# Altium schematic symbol library MCU_Texas_MSP430.SchLib: 361 symbols (part 1 of 9)
Pins are listed as number, name and electrical type; pins without a type are passive.

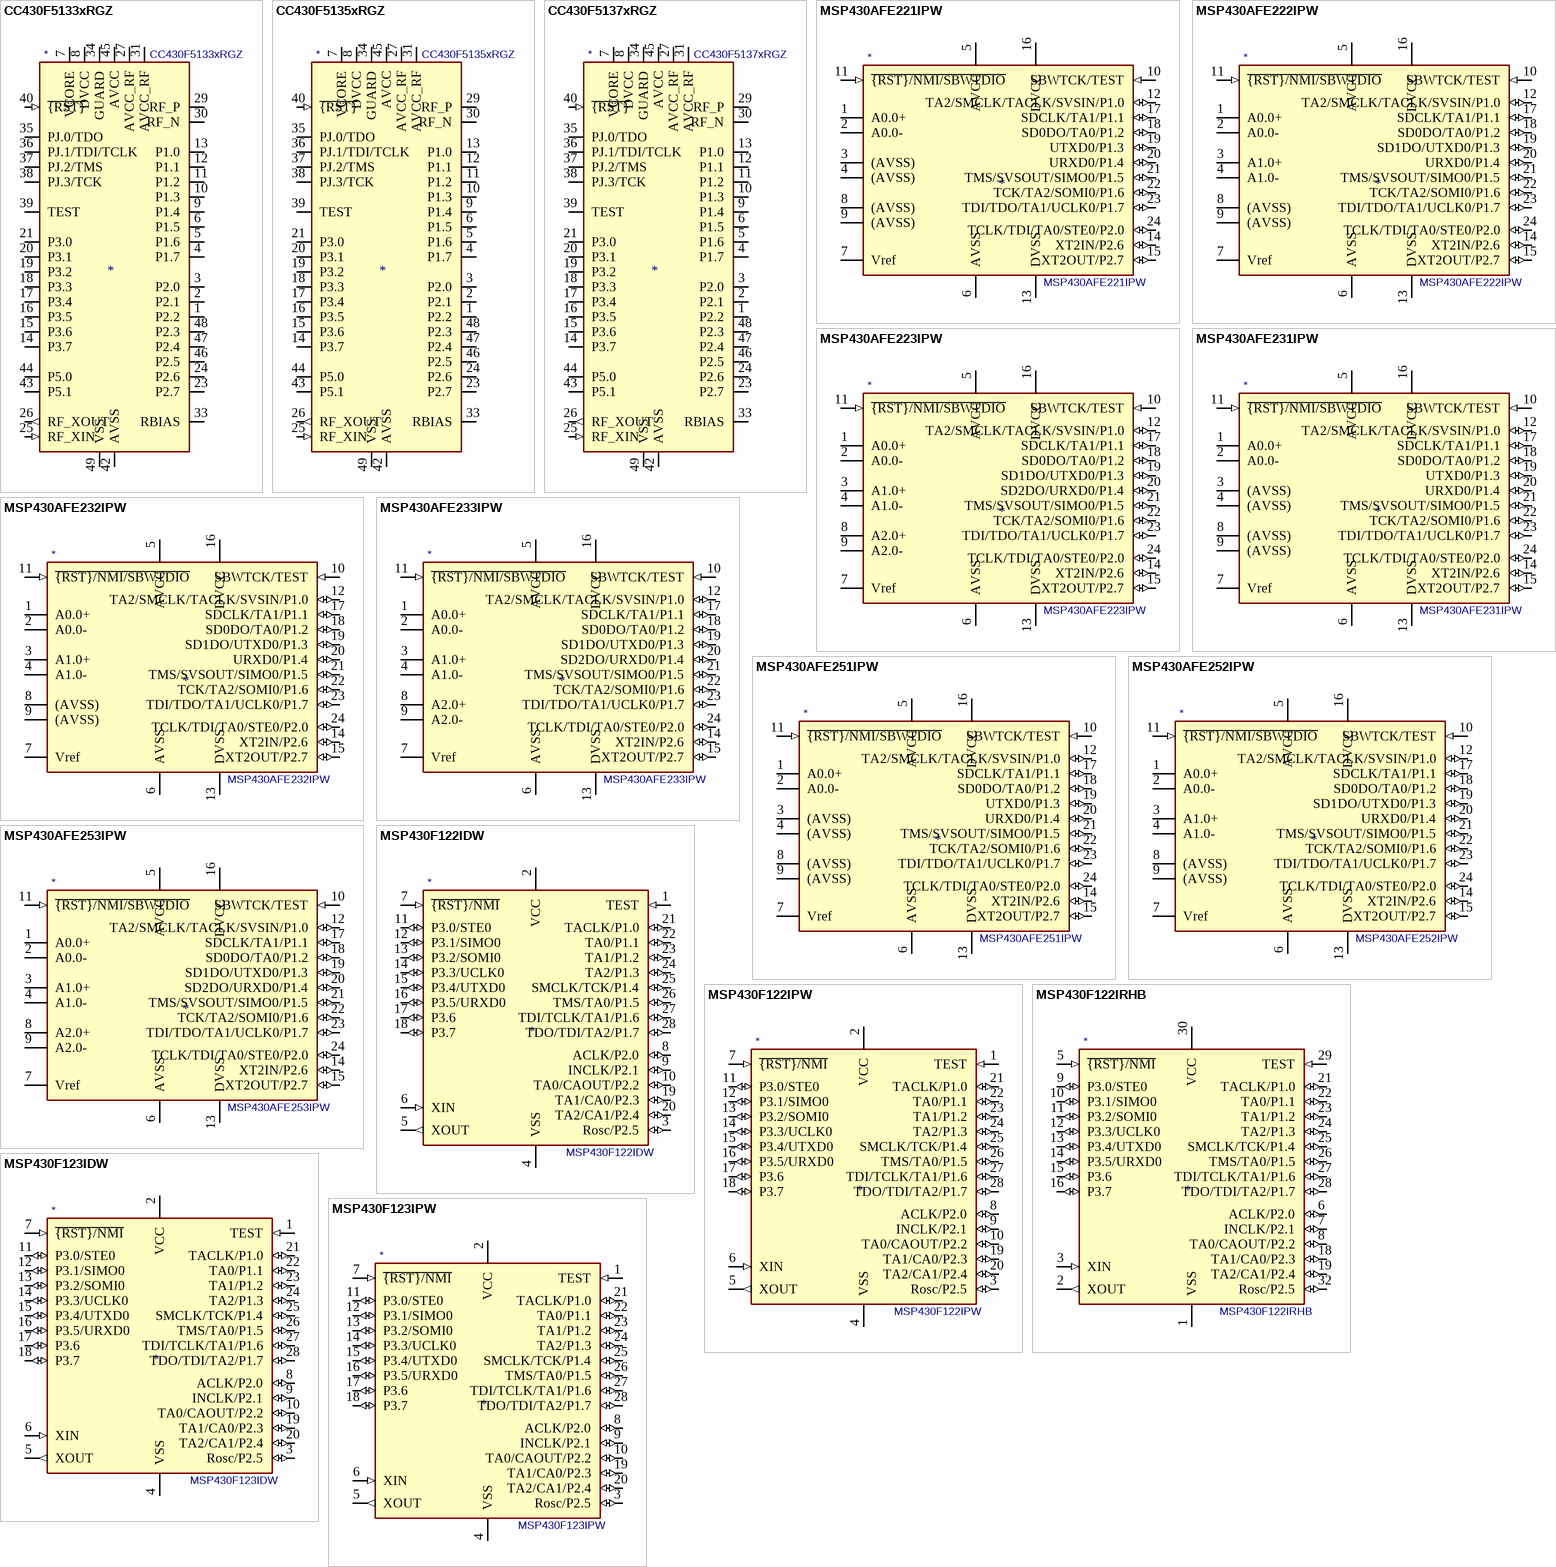
[diagram p0: symbols CC430F5133xRGZ to MSP430F123IPW]

## CC430F5133xRGZ
designator *  value CC430F5133xRGZ
ki_keywords: TI MSP430 CC430 16-bit mixed signal microcontroller CC1101; ki_description: 8KB Flash, 2KB RAM, MSP430 core with integrated CC1101 radio transceiver, VQFN-48; ki_fp_filters: VQFN*1EP*7x7mm*P0.5mm*; Footprint: Package_DFN_QFN:VQFN-48-1EP_7x7mm_P0.5mm_EP4.1x4.1mm_ThermalVias; Supplier: http://www.ti.com/lit/ds/symlink/cc430f5137.pdf
footprint VQFN-48-1EP_7x7mm_P0.5mm_EP4.1x4.1mm_ThermalVias
pins: 1 P2.2 (io), 2 P2.1 (io), 3 P2.0 (io), 4 P1.7 (io), 5 P1.6 (io), 6 P1.5 (io), 7 VCORE (power), 8 DVCC (power), 9 P1.4 (io), 10 P1.3 (io), 11 P1.2 (io), 12 P1.1 (io), 13 P1.0 (io), 14 P3.7 (io), 15 P3.6 (io), 16 P3.5 (io), 17 P3.4 (io), 18 P3.3 (io), 19 P3.2 (io), 20 P3.1 (io), 21 P3.0 (io), 22 DVCC hidden, 23 P2.7 (io), 24 P2.6 (io), 25 RF_XIN (in), 26 RF_XOUT (out), 27 AVCC_RF (power), 28 AVCC_RF hidden, 29 RF_P, 30 RF_N, 31 AVCC_RF (power), 32 AVCC_RF hidden, 33 RBIAS, 34 GUARD (power), 35 PJ.0/TDO (io), 36 PJ.1/TDI/TCLK (io), 37 PJ.2/TMS (io), 38 PJ.3/TCK (io), 39 TEST (io), 40 ~{{RST}} (in), 41 DVCC hidden, 42 AVSS (power), 43 P5.1 (io), 44 P5.0 (io), 45 AVCC (power), 46 P2.5 (io), 47 P2.4 (io), 48 P2.3 (io), 49 VSS (power)

## CC430F5135xRGZ
designator *  value CC430F5135xRGZ
ki_keywords: TI MSP430 CC430 16-bit mixed signal microcontroller CC1101; ki_description: 16KB Flash, 2KB RAM, MSP430 core with integrated CC1101 radio transceiver, VQFN-48; ki_fp_filters: VQFN*1EP*7x7mm*P0.5mm*; Footprint: Package_DFN_QFN:VQFN-48-1EP_7x7mm_P0.5mm_EP4.1x4.1mm_ThermalVias; Supplier: http://www.ti.com/lit/ds/symlink/cc430f5137.pdf
footprint VQFN-48-1EP_7x7mm_P0.5mm_EP4.1x4.1mm_ThermalVias
pins: 1 P2.2 (io), 2 P2.1 (io), 3 P2.0 (io), 4 P1.7 (io), 5 P1.6 (io), 6 P1.5 (io), 7 VCORE (power), 8 DVCC (power), 9 P1.4 (io), 10 P1.3 (io), 11 P1.2 (io), 12 P1.1 (io), 13 P1.0 (io), 14 P3.7 (io), 15 P3.6 (io), 16 P3.5 (io), 17 P3.4 (io), 18 P3.3 (io), 19 P3.2 (io), 20 P3.1 (io), 21 P3.0 (io), 22 DVCC hidden, 23 P2.7 (io), 24 P2.6 (io), 25 RF_XIN (in), 26 RF_XOUT (out), 27 AVCC_RF (power), 28 AVCC_RF hidden, 29 RF_P, 30 RF_N, 31 AVCC_RF (power), 32 AVCC_RF hidden, 33 RBIAS, 34 GUARD (power), 35 PJ.0/TDO (io), 36 PJ.1/TDI/TCLK (io), 37 PJ.2/TMS (io), 38 PJ.3/TCK (io), 39 TEST (io), 40 ~{{RST}} (in), 41 DVCC hidden, 42 AVSS (power), 43 P5.1 (io), 44 P5.0 (io), 45 AVCC (power), 46 P2.5 (io), 47 P2.4 (io), 48 P2.3 (io), 49 VSS (power)

## CC430F5137xRGZ
designator *  value CC430F5137xRGZ
ki_keywords: TI MSP430 CC430 16-bit mixed signal microcontroller CC1101; ki_description: 32KB Flash, 4KB RAM, MSP430 core with integrated CC1101 radio transceiver, VQFN-48; ki_fp_filters: VQFN*1EP*7x7mm*P0.5mm*; Footprint: Package_DFN_QFN:VQFN-48-1EP_7x7mm_P0.5mm_EP4.1x4.1mm_ThermalVias; Supplier: http://www.ti.com/lit/ds/symlink/cc430f5137.pdf
footprint VQFN-48-1EP_7x7mm_P0.5mm_EP4.1x4.1mm_ThermalVias
pins: 1 P2.2 (io), 2 P2.1 (io), 3 P2.0 (io), 4 P1.7 (io), 5 P1.6 (io), 6 P1.5 (io), 7 VCORE (power), 8 DVCC (power), 9 P1.4 (io), 10 P1.3 (io), 11 P1.2 (io), 12 P1.1 (io), 13 P1.0 (io), 14 P3.7 (io), 15 P3.6 (io), 16 P3.5 (io), 17 P3.4 (io), 18 P3.3 (io), 19 P3.2 (io), 20 P3.1 (io), 21 P3.0 (io), 22 DVCC hidden, 23 P2.7 (io), 24 P2.6 (io), 25 RF_XIN (in), 26 RF_XOUT (out), 27 AVCC_RF (power), 28 AVCC_RF hidden, 29 RF_P, 30 RF_N, 31 AVCC_RF (power), 32 AVCC_RF hidden, 33 RBIAS, 34 GUARD (power), 35 PJ.0/TDO (io), 36 PJ.1/TDI/TCLK (io), 37 PJ.2/TMS (io), 38 PJ.3/TCK (io), 39 TEST (io), 40 ~{{RST}} (in), 41 DVCC hidden, 42 AVSS (power), 43 P5.1 (io), 44 P5.0 (io), 45 AVCC (power), 46 P2.5 (io), 47 P2.4 (io), 48 P2.3 (io), 49 VSS (power)

## MSP430AFE221IPW
designator *  value MSP430AFE221IPW
ki_keywords: TI MSP430 16-bit mixed signal microcontroller; ki_description: 4kB Flash, 256B RAM, TSSOP-24; ki_fp_filters: TSSOP*4.4x7.8mm*P0.65mm*; Footprint: Package_SO:TSSOP-24_4.4x7.8mm_P0.65mm; Supplier: http://www.ti.com/lit/ds/symlink/msp430afe221.pdf
footprint TSSOP-24_4.4x7.8mm_P0.65mm
pins: 1 A0.0+, 2 A0.0-, 3 (AVSS), 4 (AVSS), 5 AVCC (power), 6 AVSS (power), 7 Vref, 8 (AVSS), 9 (AVSS), 10 SBWTCK/TEST (in), 11 ~{{RST}/NMI/SBWTDIO} (in), 12 TA2/SMCLK/TACLK/SVSIN/P1.0 (io), 13 DVSS (power), 14 XT2IN/P2.6 (io), 15 XT2OUT/P2.7 (io), 16 DVCC (power), 17 SDCLK/TA1/P1.1 (io), 18 SD0DO/TA0/P1.2 (io), 19 UTXD0/P1.3 (io), 20 URXD0/P1.4 (io), 21 TMS/SVSOUT/SIMO0/P1.5 (io), 22 TCK/TA2/SOMI0/P1.6 (io), 23 TDI/TDO/TA1/UCLK0/P1.7 (io), 24 TCLK/TDI/TA0/STE0/P2.0 (io)

## MSP430AFE222IPW
designator *  value MSP430AFE222IPW
ki_keywords: TI MSP430 16-bit mixed signal microcontroller; ki_description: 4kB Flash, 256B RAM, TSSOP-24; ki_fp_filters: TSSOP*4.4x7.8mm*P0.65mm*; Footprint: Package_SO:TSSOP-24_4.4x7.8mm_P0.65mm; Supplier: http://www.ti.com/lit/ds/symlink/msp430afe222.pdf
footprint TSSOP-24_4.4x7.8mm_P0.65mm
pins: 1 A0.0+, 2 A0.0-, 3 A1.0+, 4 A1.0-, 5 AVCC (power), 6 AVSS (power), 7 Vref, 8 (AVSS), 9 (AVSS), 10 SBWTCK/TEST (in), 11 ~{{RST}/NMI/SBWTDIO} (in), 12 TA2/SMCLK/TACLK/SVSIN/P1.0 (io), 13 DVSS (power), 14 XT2IN/P2.6 (io), 15 XT2OUT/P2.7 (io), 16 DVCC (power), 17 SDCLK/TA1/P1.1 (io), 18 SD0DO/TA0/P1.2 (io), 19 SD1DO/UTXD0/P1.3 (io), 20 URXD0/P1.4 (io), 21 TMS/SVSOUT/SIMO0/P1.5 (io), 22 TCK/TA2/SOMI0/P1.6 (io), 23 TDI/TDO/TA1/UCLK0/P1.7 (io), 24 TCLK/TDI/TA0/STE0/P2.0 (io)

## MSP430AFE223IPW
designator *  value MSP430AFE223IPW
ki_keywords: TI MSP430 16-bit mixed signal microcontroller; ki_description: 4kB Flash, 256B RAM, TSSOP-24; ki_fp_filters: TSSOP*4.4x7.8mm*P0.65mm*; Footprint: Package_SO:TSSOP-24_4.4x7.8mm_P0.65mm; Supplier: http://www.ti.com/lit/ds/symlink/msp430afe223.pdf
footprint TSSOP-24_4.4x7.8mm_P0.65mm
pins: 1 A0.0+, 2 A0.0-, 3 A1.0+, 4 A1.0-, 5 AVCC (power), 6 AVSS (power), 7 Vref, 8 A2.0+, 9 A2.0-, 10 SBWTCK/TEST (in), 11 ~{{RST}/NMI/SBWTDIO} (in), 12 TA2/SMCLK/TACLK/SVSIN/P1.0 (io), 13 DVSS (power), 14 XT2IN/P2.6 (io), 15 XT2OUT/P2.7 (io), 16 DVCC (power), 17 SDCLK/TA1/P1.1 (io), 18 SD0DO/TA0/P1.2 (io), 19 SD1DO/UTXD0/P1.3 (io), 20 SD2DO/URXD0/P1.4 (io), 21 TMS/SVSOUT/SIMO0/P1.5 (io), 22 TCK/TA2/SOMI0/P1.6 (io), 23 TDI/TDO/TA1/UCLK0/P1.7 (io), 24 TCLK/TDI/TA0/STE0/P2.0 (io)

## MSP430AFE231IPW
designator *  value MSP430AFE231IPW
ki_keywords: TI MSP430 16-bit mixed signal microcontroller; ki_description: 8kB Flash, 512B RAM, TSSOP-24; ki_fp_filters: TSSOP*4.4x7.8mm*P0.65mm*; Footprint: Package_SO:TSSOP-24_4.4x7.8mm_P0.65mm; Supplier: http://www.ti.com/lit/ds/symlink/msp430afe231.pdf
footprint TSSOP-24_4.4x7.8mm_P0.65mm
pins: 1 A0.0+, 2 A0.0-, 3 (AVSS), 4 (AVSS), 5 AVCC (power), 6 AVSS (power), 7 Vref, 8 (AVSS), 9 (AVSS), 10 SBWTCK/TEST (in), 11 ~{{RST}/NMI/SBWTDIO} (in), 12 TA2/SMCLK/TACLK/SVSIN/P1.0 (io), 13 DVSS (power), 14 XT2IN/P2.6 (io), 15 XT2OUT/P2.7 (io), 16 DVCC (power), 17 SDCLK/TA1/P1.1 (io), 18 SD0DO/TA0/P1.2 (io), 19 UTXD0/P1.3 (io), 20 URXD0/P1.4 (io), 21 TMS/SVSOUT/SIMO0/P1.5 (io), 22 TCK/TA2/SOMI0/P1.6 (io), 23 TDI/TDO/TA1/UCLK0/P1.7 (io), 24 TCLK/TDI/TA0/STE0/P2.0 (io)

## MSP430AFE232IPW
designator *  value MSP430AFE232IPW
ki_keywords: TI MSP430 16-bit mixed signal microcontroller; ki_description: 8kB Flash, 512B RAM, TSSOP-24; ki_fp_filters: TSSOP*4.4x7.8mm*P0.65mm*; Footprint: Package_SO:TSSOP-24_4.4x7.8mm_P0.65mm; Supplier: http://www.ti.com/lit/ds/symlink/msp430afe232.pdf
footprint TSSOP-24_4.4x7.8mm_P0.65mm
pins: 1 A0.0+, 2 A0.0-, 3 A1.0+, 4 A1.0-, 5 AVCC (power), 6 AVSS (power), 7 Vref, 8 (AVSS), 9 (AVSS), 10 SBWTCK/TEST (in), 11 ~{{RST}/NMI/SBWTDIO} (in), 12 TA2/SMCLK/TACLK/SVSIN/P1.0 (io), 13 DVSS (power), 14 XT2IN/P2.6 (io), 15 XT2OUT/P2.7 (io), 16 DVCC (power), 17 SDCLK/TA1/P1.1 (io), 18 SD0DO/TA0/P1.2 (io), 19 SD1DO/UTXD0/P1.3 (io), 20 URXD0/P1.4 (io), 21 TMS/SVSOUT/SIMO0/P1.5 (io), 22 TCK/TA2/SOMI0/P1.6 (io), 23 TDI/TDO/TA1/UCLK0/P1.7 (io), 24 TCLK/TDI/TA0/STE0/P2.0 (io)

## MSP430AFE233IPW
designator *  value MSP430AFE233IPW
ki_keywords: TI MSP430 16-bit mixed signal microcontroller; ki_description: 8kB Flash, 512B RAM, TSSOP-24; ki_fp_filters: TSSOP*4.4x7.8mm*P0.65mm*; Footprint: Package_SO:TSSOP-24_4.4x7.8mm_P0.65mm; Supplier: http://www.ti.com/lit/ds/symlink/msp430afe233.pdf
footprint TSSOP-24_4.4x7.8mm_P0.65mm
pins: 1 A0.0+, 2 A0.0-, 3 A1.0+, 4 A1.0-, 5 AVCC (power), 6 AVSS (power), 7 Vref, 8 A2.0+, 9 A2.0-, 10 SBWTCK/TEST (in), 11 ~{{RST}/NMI/SBWTDIO} (in), 12 TA2/SMCLK/TACLK/SVSIN/P1.0 (io), 13 DVSS (power), 14 XT2IN/P2.6 (io), 15 XT2OUT/P2.7 (io), 16 DVCC (power), 17 SDCLK/TA1/P1.1 (io), 18 SD0DO/TA0/P1.2 (io), 19 SD1DO/UTXD0/P1.3 (io), 20 SD2DO/URXD0/P1.4 (io), 21 TMS/SVSOUT/SIMO0/P1.5 (io), 22 TCK/TA2/SOMI0/P1.6 (io), 23 TDI/TDO/TA1/UCLK0/P1.7 (io), 24 TCLK/TDI/TA0/STE0/P2.0 (io)

## MSP430AFE251IPW
designator *  value MSP430AFE251IPW
ki_keywords: TI MSP430 16-bit mixed signal microcontroller; ki_description: 16kB Flash, 512B RAM, TSSOP-24; ki_fp_filters: TSSOP*4.4x7.8mm*P0.65mm*; Footprint: Package_SO:TSSOP-24_4.4x7.8mm_P0.65mm; Supplier: http://www.ti.com/lit/ds/symlink/msp430afe251.pdf
footprint TSSOP-24_4.4x7.8mm_P0.65mm
pins: 1 A0.0+, 2 A0.0-, 3 (AVSS), 4 (AVSS), 5 AVCC (power), 6 AVSS (power), 7 Vref, 8 (AVSS), 9 (AVSS), 10 SBWTCK/TEST (in), 11 ~{{RST}/NMI/SBWTDIO} (in), 12 TA2/SMCLK/TACLK/SVSIN/P1.0 (io), 13 DVSS (power), 14 XT2IN/P2.6 (io), 15 XT2OUT/P2.7 (io), 16 DVCC (power), 17 SDCLK/TA1/P1.1 (io), 18 SD0DO/TA0/P1.2 (io), 19 UTXD0/P1.3 (io), 20 URXD0/P1.4 (io), 21 TMS/SVSOUT/SIMO0/P1.5 (io), 22 TCK/TA2/SOMI0/P1.6 (io), 23 TDI/TDO/TA1/UCLK0/P1.7 (io), 24 TCLK/TDI/TA0/STE0/P2.0 (io)

## MSP430AFE252IPW
designator *  value MSP430AFE252IPW
ki_keywords: TI MSP430 16-bit mixed signal microcontroller; ki_description: 16kB Flash, 512B RAM, TSSOP-24; ki_fp_filters: TSSOP*4.4x7.8mm*P0.65mm*; Footprint: Package_SO:TSSOP-24_4.4x7.8mm_P0.65mm; Supplier: http://www.ti.com/lit/ds/symlink/msp430afe252.pdf
footprint TSSOP-24_4.4x7.8mm_P0.65mm
pins: 1 A0.0+, 2 A0.0-, 3 A1.0+, 4 A1.0-, 5 AVCC (power), 6 AVSS (power), 7 Vref, 8 (AVSS), 9 (AVSS), 10 SBWTCK/TEST (in), 11 ~{{RST}/NMI/SBWTDIO} (in), 12 TA2/SMCLK/TACLK/SVSIN/P1.0 (io), 13 DVSS (power), 14 XT2IN/P2.6 (io), 15 XT2OUT/P2.7 (io), 16 DVCC (power), 17 SDCLK/TA1/P1.1 (io), 18 SD0DO/TA0/P1.2 (io), 19 SD1DO/UTXD0/P1.3 (io), 20 URXD0/P1.4 (io), 21 TMS/SVSOUT/SIMO0/P1.5 (io), 22 TCK/TA2/SOMI0/P1.6 (io), 23 TDI/TDO/TA1/UCLK0/P1.7 (io), 24 TCLK/TDI/TA0/STE0/P2.0 (io)

## MSP430AFE253IPW
designator *  value MSP430AFE253IPW
ki_keywords: TI MSP430 16-bit mixed signal microcontroller; ki_description: 16kB Flash, 512B RAM, TSSOP-24; ki_fp_filters: TSSOP*4.4x7.8mm*P0.65mm*; Footprint: Package_SO:TSSOP-24_4.4x7.8mm_P0.65mm; Supplier: http://www.ti.com/lit/ds/symlink/msp430afe253.pdf
footprint TSSOP-24_4.4x7.8mm_P0.65mm
pins: 1 A0.0+, 2 A0.0-, 3 A1.0+, 4 A1.0-, 5 AVCC (power), 6 AVSS (power), 7 Vref, 8 A2.0+, 9 A2.0-, 10 SBWTCK/TEST (in), 11 ~{{RST}/NMI/SBWTDIO} (in), 12 TA2/SMCLK/TACLK/SVSIN/P1.0 (io), 13 DVSS (power), 14 XT2IN/P2.6 (io), 15 XT2OUT/P2.7 (io), 16 DVCC (power), 17 SDCLK/TA1/P1.1 (io), 18 SD0DO/TA0/P1.2 (io), 19 SD1DO/UTXD0/P1.3 (io), 20 SD2DO/URXD0/P1.4 (io), 21 TMS/SVSOUT/SIMO0/P1.5 (io), 22 TCK/TA2/SOMI0/P1.6 (io), 23 TDI/TDO/TA1/UCLK0/P1.7 (io), 24 TCLK/TDI/TA0/STE0/P2.0 (io)

## MSP430F122IDW
designator *  value MSP430F122IDW
ki_keywords: TI MSP430 16-bit mixed signal microcontroller; ki_description: 4kB + 256B Flash, 256B RAM, SOWB-28; ki_fp_filters: SOIC*7.5x17.9mm*P1.27mm*; Footprint: Package_SO:SOIC-28W_7.5x17.9mm_P1.27mm; Supplier: http://www.ti.com/lit/ds/symlink/msp430f122.pdf
footprint SOIC-28W_7.5x17.9mm_P1.27mm
pins: 1 TEST (in), 2 VCC (power), 3 Rosc/P2.5 (io), 4 VSS (power), 5 XOUT (out), 6 XIN (in), 7 ~{{RST}/NMI} (in), 8 ACLK/P2.0 (io), 9 INCLK/P2.1 (io), 10 TA0/CAOUT/P2.2 (io), 11 P3.0/STE0 (io), 12 P3.1/SIMO0 (io), 13 P3.2/SOMI0 (io), 14 P3.3/UCLK0 (io), 15 P3.4/UTXD0 (io), 16 P3.5/URXD0 (io), 17 P3.6 (io), 18 P3.7 (io), 19 TA1/CA0/P2.3 (io), 20 TA2/CA1/P2.4 (io), 21 TACLK/P1.0 (io), 22 TA0/P1.1 (io), 23 TA1/P1.2 (io), 24 TA2/P1.3 (io), 25 SMCLK/TCK/P1.4 (io), 26 TMS/TA0/P1.5 (io), 27 TDI/TCLK/TA1/P1.6 (io), 28 TDO/TDI/TA2/P1.7 (io)

## MSP430F122IPW
designator *  value MSP430F122IPW
ki_keywords: TI MSP430 16-bit mixed signal microcontroller; ki_description: 4kB + 256B Flash, 256B RAM, TSSOP-28; ki_fp_filters: TSSOP*4.4x9.7mm*P0.65mm*; Footprint: Package_SO:TSSOP-28_4.4x9.7mm_P0.65mm; Supplier: http://www.ti.com/lit/ds/symlink/msp430f122.pdf
footprint TSSOP-28_4.4x9.7mm_P0.65mm
pins: 1 TEST (in), 2 VCC (power), 3 Rosc/P2.5 (io), 4 VSS (power), 5 XOUT (out), 6 XIN (in), 7 ~{{RST}/NMI} (in), 8 ACLK/P2.0 (io), 9 INCLK/P2.1 (io), 10 TA0/CAOUT/P2.2 (io), 11 P3.0/STE0 (io), 12 P3.1/SIMO0 (io), 13 P3.2/SOMI0 (io), 14 P3.3/UCLK0 (io), 15 P3.4/UTXD0 (io), 16 P3.5/URXD0 (io), 17 P3.6 (io), 18 P3.7 (io), 19 TA1/CA0/P2.3 (io), 20 TA2/CA1/P2.4 (io), 21 TACLK/P1.0 (io), 22 TA0/P1.1 (io), 23 TA1/P1.2 (io), 24 TA2/P1.3 (io), 25 SMCLK/TCK/P1.4 (io), 26 TMS/TA0/P1.5 (io), 27 TDI/TCLK/TA1/P1.6 (io), 28 TDO/TDI/TA2/P1.7 (io)

## MSP430F122IRHB
designator *  value MSP430F122IRHB
ki_keywords: TI MSP430 16-bit mixed signal microcontroller; ki_description: 4kB + 256B Flash, 256B RAM, QFN-32; ki_fp_filters: Texas*S?PVQFN*; Footprint: Package_DFN_QFN:Texas_S-PVQFN-N32_EP3.45x3.45mm; Supplier: http://www.ti.com/lit/ds/symlink/msp430f122.pdf
footprint Texas_S-PVQFN-N32_EP3.45x3.45mm
pins: 1 VSS (power), 2 XOUT (out), 3 XIN (in), 5 ~{{RST}/NMI} (in), 6 ACLK/P2.0 (io), 7 INCLK/P2.1 (io), 8 TA0/CAOUT/P2.2 (io), 9 P3.0/STE0 (io), 10 P3.1/SIMO0 (io), 11 P3.2/SOMI0 (io), 12 P3.3/UCLK0 (io), 13 P3.4/UTXD0 (io), 14 P3.5/URXD0 (io), 15 P3.6 (io), 16 P3.7 (io), 18 TA1/CA0/P2.3 (io), 19 TA2/CA1/P2.4 (io), 21 TACLK/P1.0 (io), 22 TA0/P1.1 (io), 23 TA1/P1.2 (io), 24 TA2/P1.3 (io), 25 SMCLK/TCK/P1.4 (io), 26 TMS/TA0/P1.5 (io), 27 TDI/TCLK/TA1/P1.6 (io), 28 TDO/TDI/TA2/P1.7 (io), 29 TEST (in), 30 VCC (power), 32 Rosc/P2.5 (io)

## MSP430F123IDW
designator *  value MSP430F123IDW
ki_keywords: TI MSP430 16-bit mixed signal microcontroller; ki_description: 8kB + 256B Flash, 256B RAM, SOWB-28; ki_fp_filters: SOIC*7.5x17.9mm*P1.27mm*; Footprint: Package_SO:SOIC-28W_7.5x17.9mm_P1.27mm; Supplier: http://www.ti.com/lit/ds/symlink/msp430f123.pdf
footprint SOIC-28W_7.5x17.9mm_P1.27mm
pins: 1 TEST (in), 2 VCC (power), 3 Rosc/P2.5 (io), 4 VSS (power), 5 XOUT (out), 6 XIN (in), 7 ~{{RST}/NMI} (in), 8 ACLK/P2.0 (io), 9 INCLK/P2.1 (io), 10 TA0/CAOUT/P2.2 (io), 11 P3.0/STE0 (io), 12 P3.1/SIMO0 (io), 13 P3.2/SOMI0 (io), 14 P3.3/UCLK0 (io), 15 P3.4/UTXD0 (io), 16 P3.5/URXD0 (io), 17 P3.6 (io), 18 P3.7 (io), 19 TA1/CA0/P2.3 (io), 20 TA2/CA1/P2.4 (io), 21 TACLK/P1.0 (io), 22 TA0/P1.1 (io), 23 TA1/P1.2 (io), 24 TA2/P1.3 (io), 25 SMCLK/TCK/P1.4 (io), 26 TMS/TA0/P1.5 (io), 27 TDI/TCLK/TA1/P1.6 (io), 28 TDO/TDI/TA2/P1.7 (io)

## MSP430F123IPW
designator *  value MSP430F123IPW
ki_keywords: TI MSP430 16-bit mixed signal microcontroller; ki_description: 8kB + 256B Flash, 256B RAM, TSSOP-28; ki_fp_filters: TSSOP*4.4x9.7mm*P0.65mm*; Footprint: Package_SO:TSSOP-28_4.4x9.7mm_P0.65mm; Supplier: http://www.ti.com/lit/ds/symlink/msp430f123.pdf
footprint TSSOP-28_4.4x9.7mm_P0.65mm
pins: 1 TEST (in), 2 VCC (power), 3 Rosc/P2.5 (io), 4 VSS (power), 5 XOUT (out), 6 XIN (in), 7 ~{{RST}/NMI} (in), 8 ACLK/P2.0 (io), 9 INCLK/P2.1 (io), 10 TA0/CAOUT/P2.2 (io), 11 P3.0/STE0 (io), 12 P3.1/SIMO0 (io), 13 P3.2/SOMI0 (io), 14 P3.3/UCLK0 (io), 15 P3.4/UTXD0 (io), 16 P3.5/URXD0 (io), 17 P3.6 (io), 18 P3.7 (io), 19 TA1/CA0/P2.3 (io), 20 TA2/CA1/P2.4 (io), 21 TACLK/P1.0 (io), 22 TA0/P1.1 (io), 23 TA1/P1.2 (io), 24 TA2/P1.3 (io), 25 SMCLK/TCK/P1.4 (io), 26 TMS/TA0/P1.5 (io), 27 TDI/TCLK/TA1/P1.6 (io), 28 TDO/TDI/TA2/P1.7 (io)

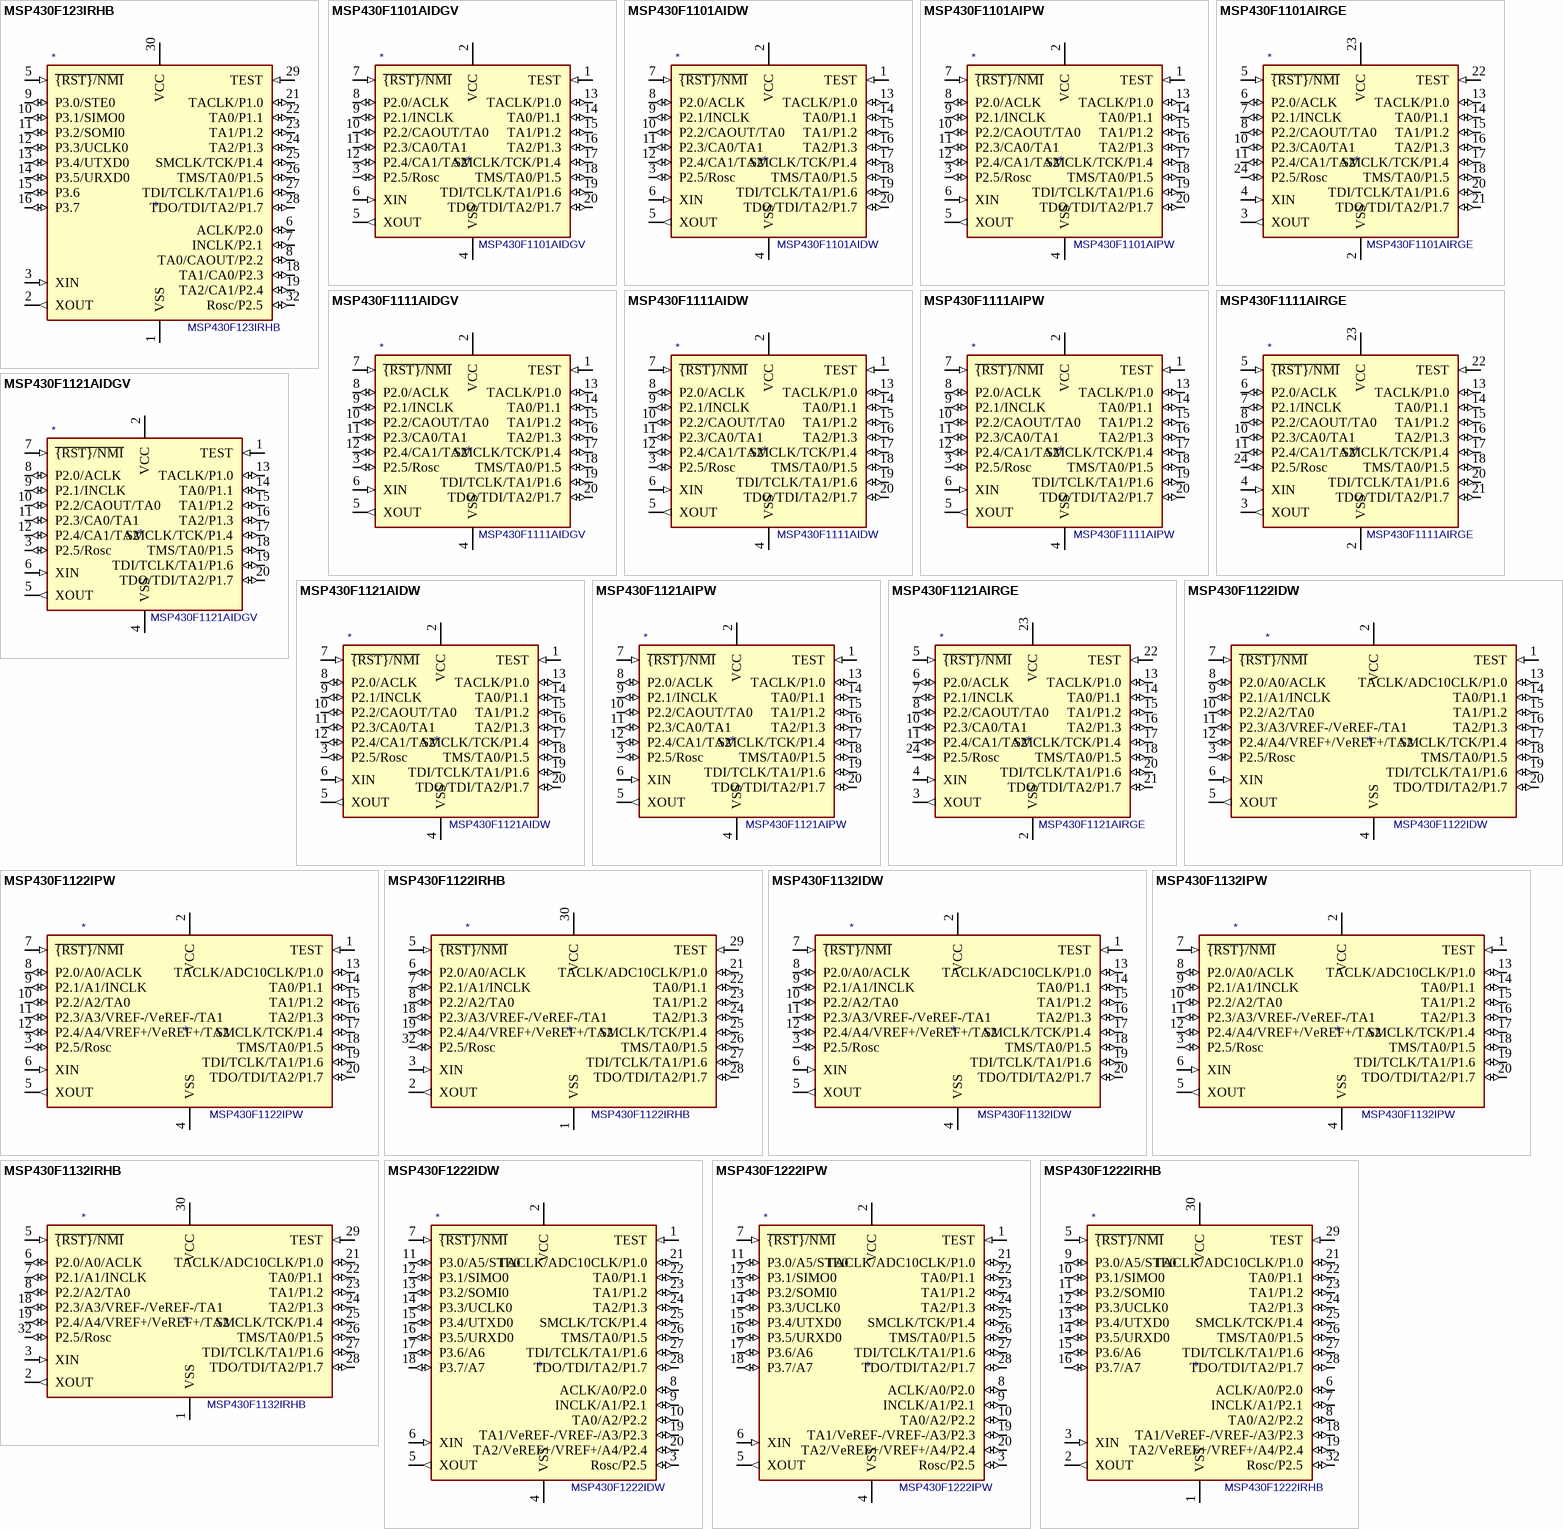
[diagram p1: symbols MSP430F123IRHB to MSP430F1222IRHB]

## MSP430F123IRHB
designator *  value MSP430F123IRHB
ki_keywords: TI MSP430 16-bit mixed signal microcontroller; ki_description: 8kB + 256B Flash, 256B RAM, QFN-32; ki_fp_filters: Texas*S?PVQFN*; Footprint: Package_DFN_QFN:Texas_S-PVQFN-N32_EP3.45x3.45mm; Supplier: http://www.ti.com/lit/ds/symlink/msp430f123.pdf
footprint Texas_S-PVQFN-N32_EP3.45x3.45mm
pins: 1 VSS (power), 2 XOUT (out), 3 XIN (in), 5 ~{{RST}/NMI} (in), 6 ACLK/P2.0 (io), 7 INCLK/P2.1 (io), 8 TA0/CAOUT/P2.2 (io), 9 P3.0/STE0 (io), 10 P3.1/SIMO0 (io), 11 P3.2/SOMI0 (io), 12 P3.3/UCLK0 (io), 13 P3.4/UTXD0 (io), 14 P3.5/URXD0 (io), 15 P3.6 (io), 16 P3.7 (io), 18 TA1/CA0/P2.3 (io), 19 TA2/CA1/P2.4 (io), 21 TACLK/P1.0 (io), 22 TA0/P1.1 (io), 23 TA1/P1.2 (io), 24 TA2/P1.3 (io), 25 SMCLK/TCK/P1.4 (io), 26 TMS/TA0/P1.5 (io), 27 TDI/TCLK/TA1/P1.6 (io), 28 TDO/TDI/TA2/P1.7 (io), 29 TEST (in), 30 VCC (power), 32 Rosc/P2.5 (io)

## MSP430F1101AIDGV
designator *  value MSP430F1101AIDGV
ki_keywords: TI MSP430 16-bit mixed signal microcontroller; ki_description: 1kB + 128B Flash, 128B RAM, TVSOP-20; ki_fp_filters: TSSOP*4.4x6.5mm*P0.65mm*; Footprint: Package_SO:TSSOP-20_4.4x6.5mm_P0.65mm; Supplier: http://www.ti.com/lit/ds/symlink/msp430f1101a.pdf
footprint TSSOP-20_4.4x6.5mm_P0.65mm
pins: 1 TEST (in), 2 VCC (power), 3 P2.5/Rosc (io), 4 VSS (power), 5 XOUT (out), 6 XIN (in), 7 ~{{RST}/NMI} (in), 8 P2.0/ACLK (io), 9 P2.1/INCLK (io), 10 P2.2/CAOUT/TA0 (io), 11 P2.3/CA0/TA1 (io), 12 P2.4/CA1/TA2 (io), 13 TACLK/P1.0 (io), 14 TA0/P1.1 (io), 15 TA1/P1.2 (io), 16 TA2/P1.3 (io), 17 SMCLK/TCK/P1.4 (io), 18 TMS/TA0/P1.5 (io), 19 TDI/TCLK/TA1/P1.6 (io), 20 TDO/TDI/TA2/P1.7 (io)

## MSP430F1101AIDW
designator *  value MSP430F1101AIDW
ki_keywords: TI MSP430 16-bit mixed signal microcontroller; ki_description: 1kB + 128B Flash, 128B RAM, SOWB-20; ki_fp_filters: SOIC*7.5x12.8mm*P1.27mm*; Footprint: Package_SO:SOIC-20W_7.5x12.8mm_P1.27mm; Supplier: http://www.ti.com/lit/ds/symlink/msp430f1101a.pdf
footprint SOIC-20W_7.5x12.8mm_P1.27mm
pins: 1 TEST (in), 2 VCC (power), 3 P2.5/Rosc (io), 4 VSS (power), 5 XOUT (out), 6 XIN (in), 7 ~{{RST}/NMI} (in), 8 P2.0/ACLK (io), 9 P2.1/INCLK (io), 10 P2.2/CAOUT/TA0 (io), 11 P2.3/CA0/TA1 (io), 12 P2.4/CA1/TA2 (io), 13 TACLK/P1.0 (io), 14 TA0/P1.1 (io), 15 TA1/P1.2 (io), 16 TA2/P1.3 (io), 17 SMCLK/TCK/P1.4 (io), 18 TMS/TA0/P1.5 (io), 19 TDI/TCLK/TA1/P1.6 (io), 20 TDO/TDI/TA2/P1.7 (io)

## MSP430F1101AIPW
designator *  value MSP430F1101AIPW
ki_keywords: TI MSP430 16-bit mixed signal microcontroller; ki_description: 1kB + 128B Flash, 128B RAM, TSSOP-20; ki_fp_filters: TSSOP*4.4x6.5mm*P0.65mm*; Footprint: Package_SO:TSSOP-20_4.4x6.5mm_P0.65mm; Supplier: http://www.ti.com/lit/ds/symlink/msp430f1101a.pdf
footprint TSSOP-20_4.4x6.5mm_P0.65mm
pins: 1 TEST (in), 2 VCC (power), 3 P2.5/Rosc (io), 4 VSS (power), 5 XOUT (out), 6 XIN (in), 7 ~{{RST}/NMI} (in), 8 P2.0/ACLK (io), 9 P2.1/INCLK (io), 10 P2.2/CAOUT/TA0 (io), 11 P2.3/CA0/TA1 (io), 12 P2.4/CA1/TA2 (io), 13 TACLK/P1.0 (io), 14 TA0/P1.1 (io), 15 TA1/P1.2 (io), 16 TA2/P1.3 (io), 17 SMCLK/TCK/P1.4 (io), 18 TMS/TA0/P1.5 (io), 19 TDI/TCLK/TA1/P1.6 (io), 20 TDO/TDI/TA2/P1.7 (io)

## MSP430F1101AIRGE
designator *  value MSP430F1101AIRGE
ki_keywords: TI MSP430 16-bit mixed signal microcontroller; ki_description: 1kB + 128B Flash, 128B RAM, QFN-24; ki_fp_filters: VQFN*1EP*4x4mm*P0.5mm*; Footprint: Package_DFN_QFN:VQFN-24-1EP_4x4mm_P0.5mm_EP2.45x2.45mm; Supplier: http://www.ti.com/lit/ds/symlink/msp430f1101a.pdf
footprint VQFN-24-1EP_4x4mm_P0.5mm_EP2.45x2.45mm
pins: 2 VSS (power), 3 XOUT (out), 4 XIN (in), 5 ~{{RST}/NMI} (in), 6 P2.0/ACLK (io), 7 P2.1/INCLK (io), 8 P2.2/CAOUT/TA0 (io), 10 P2.3/CA0/TA1 (io), 11 P2.4/CA1/TA2 (io), 13 TACLK/P1.0 (io), 14 TA0/P1.1 (io), 15 TA1/P1.2 (io), 16 TA2/P1.3 (io), 17 SMCLK/TCK/P1.4 (io), 18 TMS/TA0/P1.5 (io), 20 TDI/TCLK/TA1/P1.6 (io), 21 TDO/TDI/TA2/P1.7 (io), 22 TEST (in), 23 VCC (power), 24 P2.5/Rosc (io)

## MSP430F1111AIDGV
designator *  value MSP430F1111AIDGV
ki_keywords: TI MSP430 16-bit mixed signal microcontroller; ki_description: 2kB + 256B Flash, 128B RAM, TVSOP-20; ki_fp_filters: TSSOP*4.4x6.5mm*P0.65mm*; Footprint: Package_SO:TSSOP-20_4.4x6.5mm_P0.65mm; Supplier: http://www.ti.com/lit/ds/symlink/msp430f1111a.pdf
footprint TSSOP-20_4.4x6.5mm_P0.65mm
pins: 1 TEST (in), 2 VCC (power), 3 P2.5/Rosc (io), 4 VSS (power), 5 XOUT (out), 6 XIN (in), 7 ~{{RST}/NMI} (in), 8 P2.0/ACLK (io), 9 P2.1/INCLK (io), 10 P2.2/CAOUT/TA0 (io), 11 P2.3/CA0/TA1 (io), 12 P2.4/CA1/TA2 (io), 13 TACLK/P1.0 (io), 14 TA0/P1.1 (io), 15 TA1/P1.2 (io), 16 TA2/P1.3 (io), 17 SMCLK/TCK/P1.4 (io), 18 TMS/TA0/P1.5 (io), 19 TDI/TCLK/TA1/P1.6 (io), 20 TDO/TDI/TA2/P1.7 (io)

## MSP430F1111AIDW
designator *  value MSP430F1111AIDW
ki_keywords: TI MSP430 16-bit mixed signal microcontroller; ki_description: 2kB + 256B Flash, 128B RAM, SOWB-20; ki_fp_filters: SOIC*7.5x12.8mm*P1.27mm*; Footprint: Package_SO:SOIC-20W_7.5x12.8mm_P1.27mm; Supplier: http://www.ti.com/lit/ds/symlink/msp430f1111a.pdf
footprint SOIC-20W_7.5x12.8mm_P1.27mm
pins: 1 TEST (in), 2 VCC (power), 3 P2.5/Rosc (io), 4 VSS (power), 5 XOUT (out), 6 XIN (in), 7 ~{{RST}/NMI} (in), 8 P2.0/ACLK (io), 9 P2.1/INCLK (io), 10 P2.2/CAOUT/TA0 (io), 11 P2.3/CA0/TA1 (io), 12 P2.4/CA1/TA2 (io), 13 TACLK/P1.0 (io), 14 TA0/P1.1 (io), 15 TA1/P1.2 (io), 16 TA2/P1.3 (io), 17 SMCLK/TCK/P1.4 (io), 18 TMS/TA0/P1.5 (io), 19 TDI/TCLK/TA1/P1.6 (io), 20 TDO/TDI/TA2/P1.7 (io)

## MSP430F1111AIPW
designator *  value MSP430F1111AIPW
ki_keywords: TI MSP430 16-bit mixed signal microcontroller; ki_description: 2kB + 256B Flash, 128B RAM, TSSOP-20; ki_fp_filters: TSSOP*4.4x6.5mm*P0.65mm*; Footprint: Package_SO:TSSOP-20_4.4x6.5mm_P0.65mm; Supplier: http://www.ti.com/lit/ds/symlink/msp430f1111a.pdf
footprint TSSOP-20_4.4x6.5mm_P0.65mm
pins: 1 TEST (in), 2 VCC (power), 3 P2.5/Rosc (io), 4 VSS (power), 5 XOUT (out), 6 XIN (in), 7 ~{{RST}/NMI} (in), 8 P2.0/ACLK (io), 9 P2.1/INCLK (io), 10 P2.2/CAOUT/TA0 (io), 11 P2.3/CA0/TA1 (io), 12 P2.4/CA1/TA2 (io), 13 TACLK/P1.0 (io), 14 TA0/P1.1 (io), 15 TA1/P1.2 (io), 16 TA2/P1.3 (io), 17 SMCLK/TCK/P1.4 (io), 18 TMS/TA0/P1.5 (io), 19 TDI/TCLK/TA1/P1.6 (io), 20 TDO/TDI/TA2/P1.7 (io)

## MSP430F1111AIRGE
designator *  value MSP430F1111AIRGE
ki_keywords: TI MSP430 16-bit mixed signal microcontroller; ki_description: 2kB + 256B Flash, 128B RAM, QFN-24; ki_fp_filters: VQFN*1EP*4x4mm*P0.5mm*; Footprint: Package_DFN_QFN:VQFN-24-1EP_4x4mm_P0.5mm_EP2.45x2.45mm; Supplier: http://www.ti.com/lit/ds/symlink/msp430f1111a.pdf
footprint VQFN-24-1EP_4x4mm_P0.5mm_EP2.45x2.45mm
pins: 2 VSS (power), 3 XOUT (out), 4 XIN (in), 5 ~{{RST}/NMI} (in), 6 P2.0/ACLK (io), 7 P2.1/INCLK (io), 8 P2.2/CAOUT/TA0 (io), 10 P2.3/CA0/TA1 (io), 11 P2.4/CA1/TA2 (io), 13 TACLK/P1.0 (io), 14 TA0/P1.1 (io), 15 TA1/P1.2 (io), 16 TA2/P1.3 (io), 17 SMCLK/TCK/P1.4 (io), 18 TMS/TA0/P1.5 (io), 20 TDI/TCLK/TA1/P1.6 (io), 21 TDO/TDI/TA2/P1.7 (io), 22 TEST (in), 23 VCC (power), 24 P2.5/Rosc (io)

## MSP430F1121AIDGV
designator *  value MSP430F1121AIDGV
ki_keywords: TI MSP430 16-bit mixed signal microcontroller; ki_description: 4kB + 256B Flash, 256B RAM, TVSOP-20; ki_fp_filters: TSSOP*4.4x6.5mm*P0.65mm*; Footprint: Package_SO:TSSOP-20_4.4x6.5mm_P0.65mm; Supplier: http://www.ti.com/lit/ds/symlink/msp430f1121a.pdf
footprint TSSOP-20_4.4x6.5mm_P0.65mm
pins: 1 TEST (in), 2 VCC (power), 3 P2.5/Rosc (io), 4 VSS (power), 5 XOUT (out), 6 XIN (in), 7 ~{{RST}/NMI} (in), 8 P2.0/ACLK (io), 9 P2.1/INCLK (io), 10 P2.2/CAOUT/TA0 (io), 11 P2.3/CA0/TA1 (io), 12 P2.4/CA1/TA2 (io), 13 TACLK/P1.0 (io), 14 TA0/P1.1 (io), 15 TA1/P1.2 (io), 16 TA2/P1.3 (io), 17 SMCLK/TCK/P1.4 (io), 18 TMS/TA0/P1.5 (io), 19 TDI/TCLK/TA1/P1.6 (io), 20 TDO/TDI/TA2/P1.7 (io)

## MSP430F1121AIDW
designator *  value MSP430F1121AIDW
ki_keywords: TI MSP430 16-bit mixed signal microcontroller; ki_description: 4kB + 256B Flash, 256B RAM, SOWB-20; ki_fp_filters: SOIC*7.5x12.8mm*P1.27mm*; Footprint: Package_SO:SOIC-20W_7.5x12.8mm_P1.27mm; Supplier: http://www.ti.com/lit/ds/symlink/msp430f1121a.pdf
footprint SOIC-20W_7.5x12.8mm_P1.27mm
pins: 1 TEST (in), 2 VCC (power), 3 P2.5/Rosc (io), 4 VSS (power), 5 XOUT (out), 6 XIN (in), 7 ~{{RST}/NMI} (in), 8 P2.0/ACLK (io), 9 P2.1/INCLK (io), 10 P2.2/CAOUT/TA0 (io), 11 P2.3/CA0/TA1 (io), 12 P2.4/CA1/TA2 (io), 13 TACLK/P1.0 (io), 14 TA0/P1.1 (io), 15 TA1/P1.2 (io), 16 TA2/P1.3 (io), 17 SMCLK/TCK/P1.4 (io), 18 TMS/TA0/P1.5 (io), 19 TDI/TCLK/TA1/P1.6 (io), 20 TDO/TDI/TA2/P1.7 (io)

## MSP430F1121AIPW
designator *  value MSP430F1121AIPW
ki_keywords: TI MSP430 16-bit mixed signal microcontroller; ki_description: 4kB + 256B Flash, 256B RAM, TSSOP-20; ki_fp_filters: TSSOP*4.4x6.5mm*P0.65mm*; Footprint: Package_SO:TSSOP-20_4.4x6.5mm_P0.65mm; Supplier: http://www.ti.com/lit/ds/symlink/msp430f1121a.pdf
footprint TSSOP-20_4.4x6.5mm_P0.65mm
pins: 1 TEST (in), 2 VCC (power), 3 P2.5/Rosc (io), 4 VSS (power), 5 XOUT (out), 6 XIN (in), 7 ~{{RST}/NMI} (in), 8 P2.0/ACLK (io), 9 P2.1/INCLK (io), 10 P2.2/CAOUT/TA0 (io), 11 P2.3/CA0/TA1 (io), 12 P2.4/CA1/TA2 (io), 13 TACLK/P1.0 (io), 14 TA0/P1.1 (io), 15 TA1/P1.2 (io), 16 TA2/P1.3 (io), 17 SMCLK/TCK/P1.4 (io), 18 TMS/TA0/P1.5 (io), 19 TDI/TCLK/TA1/P1.6 (io), 20 TDO/TDI/TA2/P1.7 (io)

## MSP430F1121AIRGE
designator *  value MSP430F1121AIRGE
ki_keywords: TI MSP430 16-bit mixed signal microcontroller; ki_description: 4kB + 256B Flash, 256B RAM, QFN-24; ki_fp_filters: VQFN*1EP*4x4mm*P0.5mm*; Footprint: Package_DFN_QFN:VQFN-24-1EP_4x4mm_P0.5mm_EP2.45x2.45mm; Supplier: http://www.ti.com/lit/ds/symlink/msp430f1121a.pdf
footprint VQFN-24-1EP_4x4mm_P0.5mm_EP2.45x2.45mm
pins: 2 VSS (power), 3 XOUT (out), 4 XIN (in), 5 ~{{RST}/NMI} (in), 6 P2.0/ACLK (io), 7 P2.1/INCLK (io), 8 P2.2/CAOUT/TA0 (io), 10 P2.3/CA0/TA1 (io), 11 P2.4/CA1/TA2 (io), 13 TACLK/P1.0 (io), 14 TA0/P1.1 (io), 15 TA1/P1.2 (io), 16 TA2/P1.3 (io), 17 SMCLK/TCK/P1.4 (io), 18 TMS/TA0/P1.5 (io), 20 TDI/TCLK/TA1/P1.6 (io), 21 TDO/TDI/TA2/P1.7 (io), 22 TEST (in), 23 VCC (power), 24 P2.5/Rosc (io)

## MSP430F1122IDW
designator *  value MSP430F1122IDW
ki_keywords: TI MSP430 16-bit mixed signal microcontroller; ki_description: 4kB + 256B Flash, 256B RAM, SOWB-20; ki_fp_filters: SOIC*7.5x17.9mm*P1.27mm*; Footprint: Package_SO:SOIC-28W_7.5x17.9mm_P1.27mm; Supplier: http://www.ti.com/lit/ds/symlink/msp430f1122.pdf
footprint SOIC-28W_7.5x17.9mm_P1.27mm
pins: 1 TEST (in), 2 VCC (power), 3 P2.5/Rosc (io), 4 VSS (power), 5 XOUT (out), 6 XIN (in), 7 ~{{RST}/NMI} (in), 8 P2.0/A0/ACLK (io), 9 P2.1/A1/INCLK (io), 10 P2.2/A2/TA0 (io), 11 P2.3/A3/VREF-/VeREF-/TA1 (io), 12 P2.4/A4/VREF+/VeREF+/TA2 (io), 13 TACLK/ADC10CLK/P1.0 (io), 14 TA0/P1.1 (io), 15 TA1/P1.2 (io), 16 TA2/P1.3 (io), 17 SMCLK/TCK/P1.4 (io), 18 TMS/TA0/P1.5 (io), 19 TDI/TCLK/TA1/P1.6 (io), 20 TDO/TDI/TA2/P1.7 (io)

## MSP430F1122IPW
designator *  value MSP430F1122IPW
ki_keywords: TI MSP430 16-bit mixed signal microcontroller; ki_description: 4kB + 256B Flash, 256B RAM, TSSOP-20; ki_fp_filters: TSSOP*4.4x9.7mm*P0.65mm*; Footprint: Package_SO:TSSOP-28_4.4x9.7mm_P0.65mm; Supplier: http://www.ti.com/lit/ds/symlink/msp430f1122.pdf
footprint TSSOP-28_4.4x9.7mm_P0.65mm
pins: 1 TEST (in), 2 VCC (power), 3 P2.5/Rosc (io), 4 VSS (power), 5 XOUT (out), 6 XIN (in), 7 ~{{RST}/NMI} (in), 8 P2.0/A0/ACLK (io), 9 P2.1/A1/INCLK (io), 10 P2.2/A2/TA0 (io), 11 P2.3/A3/VREF-/VeREF-/TA1 (io), 12 P2.4/A4/VREF+/VeREF+/TA2 (io), 13 TACLK/ADC10CLK/P1.0 (io), 14 TA0/P1.1 (io), 15 TA1/P1.2 (io), 16 TA2/P1.3 (io), 17 SMCLK/TCK/P1.4 (io), 18 TMS/TA0/P1.5 (io), 19 TDI/TCLK/TA1/P1.6 (io), 20 TDO/TDI/TA2/P1.7 (io)

## MSP430F1122IRHB
designator *  value MSP430F1122IRHB
ki_keywords: TI MSP430 16-bit mixed signal microcontroller; ki_description: 4kB + 256B Flash, 256B RAM, QFN-32; ki_fp_filters: Texas*S?PVQFN*; Footprint: Package_DFN_QFN:Texas_S-PVQFN-N32_EP3.45x3.45mm; Supplier: http://www.ti.com/lit/ds/symlink/msp430f1122.pdf
footprint Texas_S-PVQFN-N32_EP3.45x3.45mm
pins: 1 VSS (power), 2 XOUT (out), 3 XIN (in), 5 ~{{RST}/NMI} (in), 6 P2.0/A0/ACLK (io), 7 P2.1/A1/INCLK (io), 8 P2.2/A2/TA0 (io), 18 P2.3/A3/VREF-/VeREF-/TA1 (io), 19 P2.4/A4/VREF+/VeREF+/TA2 (io), 21 TACLK/ADC10CLK/P1.0 (io), 22 TA0/P1.1 (io), 23 TA1/P1.2 (io), 24 TA2/P1.3 (io), 25 SMCLK/TCK/P1.4 (io), 26 TMS/TA0/P1.5 (io), 27 TDI/TCLK/TA1/P1.6 (io), 28 TDO/TDI/TA2/P1.7 (io), 29 TEST (in), 30 VCC (power), 32 P2.5/Rosc (io)

## MSP430F1132IDW
designator *  value MSP430F1132IDW
ki_keywords: TI MSP430 16-bit mixed signal microcontroller; ki_description: 8kB + 256B Flash, 256B RAM, SOWB-20; ki_fp_filters: SOIC*7.5x17.9mm*P1.27mm*; Footprint: Package_SO:SOIC-28W_7.5x17.9mm_P1.27mm; Supplier: http://www.ti.com/lit/ds/symlink/msp430f1132.pdf
footprint SOIC-28W_7.5x17.9mm_P1.27mm
pins: 1 TEST (in), 2 VCC (power), 3 P2.5/Rosc (io), 4 VSS (power), 5 XOUT (out), 6 XIN (in), 7 ~{{RST}/NMI} (in), 8 P2.0/A0/ACLK (io), 9 P2.1/A1/INCLK (io), 10 P2.2/A2/TA0 (io), 11 P2.3/A3/VREF-/VeREF-/TA1 (io), 12 P2.4/A4/VREF+/VeREF+/TA2 (io), 13 TACLK/ADC10CLK/P1.0 (io), 14 TA0/P1.1 (io), 15 TA1/P1.2 (io), 16 TA2/P1.3 (io), 17 SMCLK/TCK/P1.4 (io), 18 TMS/TA0/P1.5 (io), 19 TDI/TCLK/TA1/P1.6 (io), 20 TDO/TDI/TA2/P1.7 (io)

## MSP430F1132IPW
designator *  value MSP430F1132IPW
ki_keywords: TI MSP430 16-bit mixed signal microcontroller; ki_description: 8kB + 256B Flash, 256B RAM, TSSOP-20; ki_fp_filters: TSSOP*4.4x9.7mm*P0.65mm*; Footprint: Package_SO:TSSOP-28_4.4x9.7mm_P0.65mm; Supplier: http://www.ti.com/lit/ds/symlink/msp430f1132.pdf
footprint TSSOP-28_4.4x9.7mm_P0.65mm
pins: 1 TEST (in), 2 VCC (power), 3 P2.5/Rosc (io), 4 VSS (power), 5 XOUT (out), 6 XIN (in), 7 ~{{RST}/NMI} (in), 8 P2.0/A0/ACLK (io), 9 P2.1/A1/INCLK (io), 10 P2.2/A2/TA0 (io), 11 P2.3/A3/VREF-/VeREF-/TA1 (io), 12 P2.4/A4/VREF+/VeREF+/TA2 (io), 13 TACLK/ADC10CLK/P1.0 (io), 14 TA0/P1.1 (io), 15 TA1/P1.2 (io), 16 TA2/P1.3 (io), 17 SMCLK/TCK/P1.4 (io), 18 TMS/TA0/P1.5 (io), 19 TDI/TCLK/TA1/P1.6 (io), 20 TDO/TDI/TA2/P1.7 (io)

## MSP430F1132IRHB
designator *  value MSP430F1132IRHB
ki_keywords: TI MSP430 16-bit mixed signal microcontroller; ki_description: 8kB + 256B Flash, 256B RAM, QFN-32; ki_fp_filters: Texas*S?PVQFN*; Footprint: Package_DFN_QFN:Texas_S-PVQFN-N32_EP3.45x3.45mm; Supplier: http://www.ti.com/lit/ds/symlink/msp430f1132.pdf
footprint Texas_S-PVQFN-N32_EP3.45x3.45mm
pins: 1 VSS (power), 2 XOUT (out), 3 XIN (in), 5 ~{{RST}/NMI} (in), 6 P2.0/A0/ACLK (io), 7 P2.1/A1/INCLK (io), 8 P2.2/A2/TA0 (io), 18 P2.3/A3/VREF-/VeREF-/TA1 (io), 19 P2.4/A4/VREF+/VeREF+/TA2 (io), 21 TACLK/ADC10CLK/P1.0 (io), 22 TA0/P1.1 (io), 23 TA1/P1.2 (io), 24 TA2/P1.3 (io), 25 SMCLK/TCK/P1.4 (io), 26 TMS/TA0/P1.5 (io), 27 TDI/TCLK/TA1/P1.6 (io), 28 TDO/TDI/TA2/P1.7 (io), 29 TEST (in), 30 VCC (power), 32 P2.5/Rosc (io)

## MSP430F1222IDW
designator *  value MSP430F1222IDW
ki_keywords: TI MSP430 16-bit mixed signal microcontroller; ki_description: 4kB + 256B Flash, 256B RAM, SOWB-28; ki_fp_filters: SOIC*7.5x17.9mm*P1.27mm*; Footprint: Package_SO:SOIC-28W_7.5x17.9mm_P1.27mm; Supplier: http://www.ti.com/lit/ds/symlink/msp430f1222.pdf
footprint SOIC-28W_7.5x17.9mm_P1.27mm
pins: 1 TEST (in), 2 VCC (power), 3 Rosc/P2.5 (io), 4 VSS (power), 5 XOUT (out), 6 XIN (in), 7 ~{{RST}/NMI} (in), 8 ACLK/A0/P2.0 (io), 9 INCLK/A1/P2.1 (io), 10 TA0/A2/P2.2 (io), 11 P3.0/A5/STE0 (io), 12 P3.1/SIMO0 (io), 13 P3.2/SOMI0 (io), 14 P3.3/UCLK0 (io), 15 P3.4/UTXD0 (io), 16 P3.5/URXD0 (io), 17 P3.6/A6 (io), 18 P3.7/A7 (io), 19 TA1/VeREF-/VREF-/A3/P2.3 (io), 20 TA2/VeREF+/VREF+/A4/P2.4 (io), 21 TACLK/ADC10CLK/P1.0 (io), 22 TA0/P1.1 (io), 23 TA1/P1.2 (io), 24 TA2/P1.3 (io), 25 SMCLK/TCK/P1.4 (io), 26 TMS/TA0/P1.5 (io), 27 TDI/TCLK/TA1/P1.6 (io), 28 TDO/TDI/TA2/P1.7 (io)

## MSP430F1222IPW
designator *  value MSP430F1222IPW
ki_keywords: TI MSP430 16-bit mixed signal microcontroller; ki_description: 4kB + 256B Flash, 256B RAM, TSSOP-28; ki_fp_filters: TSSOP*4.4x9.7mm*P0.65mm*; Footprint: Package_SO:TSSOP-28_4.4x9.7mm_P0.65mm; Supplier: http://www.ti.com/lit/ds/symlink/msp430f1222.pdf
footprint TSSOP-28_4.4x9.7mm_P0.65mm
pins: 1 TEST (in), 2 VCC (power), 3 Rosc/P2.5 (io), 4 VSS (power), 5 XOUT (out), 6 XIN (in), 7 ~{{RST}/NMI} (in), 8 ACLK/A0/P2.0 (io), 9 INCLK/A1/P2.1 (io), 10 TA0/A2/P2.2 (io), 11 P3.0/A5/STE0 (io), 12 P3.1/SIMO0 (io), 13 P3.2/SOMI0 (io), 14 P3.3/UCLK0 (io), 15 P3.4/UTXD0 (io), 16 P3.5/URXD0 (io), 17 P3.6/A6 (io), 18 P3.7/A7 (io), 19 TA1/VeREF-/VREF-/A3/P2.3 (io), 20 TA2/VeREF+/VREF+/A4/P2.4 (io), 21 TACLK/ADC10CLK/P1.0 (io), 22 TA0/P1.1 (io), 23 TA1/P1.2 (io), 24 TA2/P1.3 (io), 25 SMCLK/TCK/P1.4 (io), 26 TMS/TA0/P1.5 (io), 27 TDI/TCLK/TA1/P1.6 (io), 28 TDO/TDI/TA2/P1.7 (io)

## MSP430F1222IRHB
designator *  value MSP430F1222IRHB
ki_keywords: TI MSP430 16-bit mixed signal microcontroller; ki_description: 4kB + 256B Flash, 256B RAM, QFN-32; ki_fp_filters: Texas*S?PVQFN*; Footprint: Package_DFN_QFN:Texas_S-PVQFN-N32_EP3.45x3.45mm; Supplier: http://www.ti.com/lit/ds/symlink/msp430f1222.pdf
footprint Texas_S-PVQFN-N32_EP3.45x3.45mm
pins: 1 VSS (power), 2 XOUT (out), 3 XIN (in), 5 ~{{RST}/NMI} (in), 6 ACLK/A0/P2.0 (io), 7 INCLK/A1/P2.1 (io), 8 TA0/A2/P2.2 (io), 9 P3.0/A5/STE0 (io), 10 P3.1/SIMO0 (io), 11 P3.2/SOMI0 (io), 12 P3.3/UCLK0 (io), 13 P3.4/UTXD0 (io), 14 P3.5/URXD0 (io), 15 P3.6/A6 (io), 16 P3.7/A7 (io), 18 TA1/VeREF-/VREF-/A3/P2.3 (io), 19 TA2/VeREF+/VREF+/A4/P2.4 (io), 21 TACLK/ADC10CLK/P1.0 (io), 22 TA0/P1.1 (io), 23 TA1/P1.2 (io), 24 TA2/P1.3 (io), 25 SMCLK/TCK/P1.4 (io), 26 TMS/TA0/P1.5 (io), 27 TDI/TCLK/TA1/P1.6 (io), 28 TDO/TDI/TA2/P1.7 (io), 29 TEST (in), 30 VCC (power), 32 Rosc/P2.5 (io)

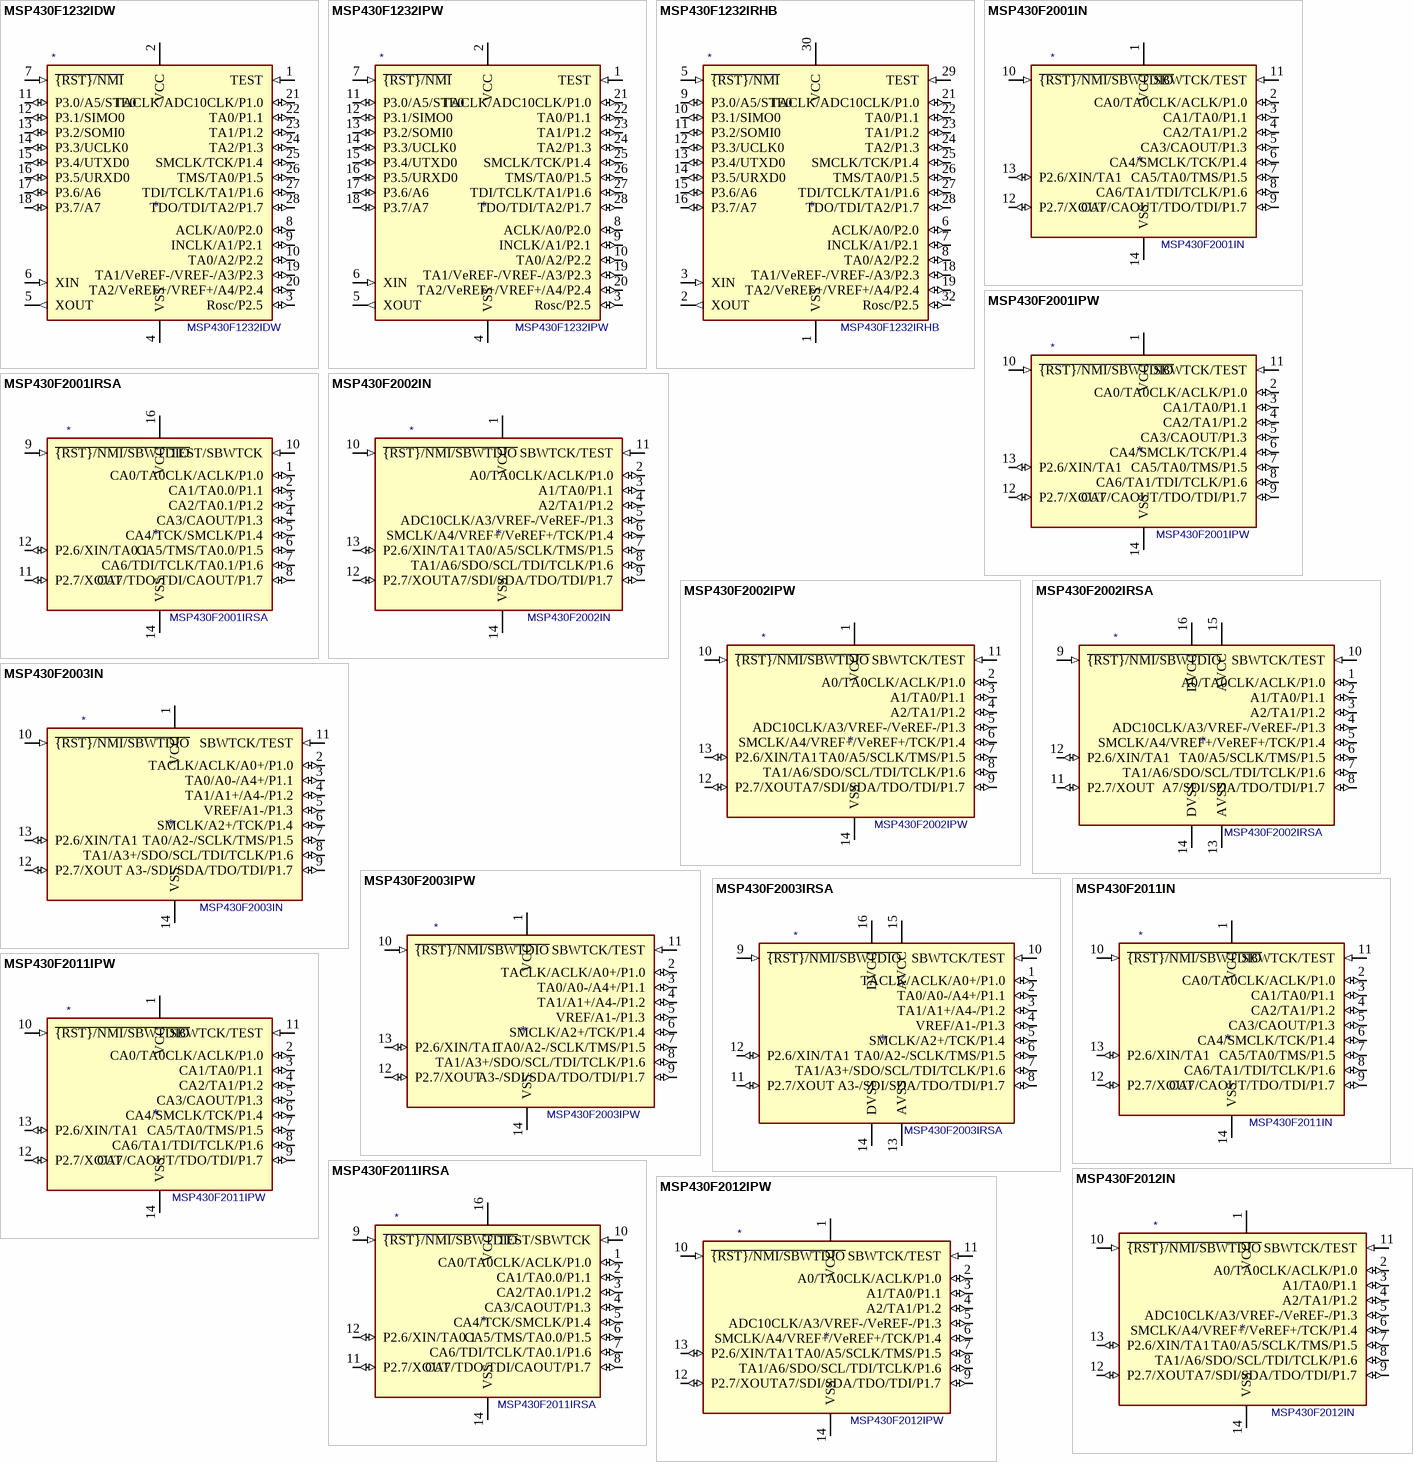
[diagram p2: symbols MSP430F1232IDW to MSP430F2012IPW]

## MSP430F1232IDW
designator *  value MSP430F1232IDW
ki_keywords: TI MSP430 16-bit mixed signal microcontroller; ki_description: 8kB + 256B Flash, 256B RAM, SOWB-28; ki_fp_filters: SOIC*7.5x17.9mm*P1.27mm*; Footprint: Package_SO:SOIC-28W_7.5x17.9mm_P1.27mm; Supplier: http://www.ti.com/lit/ds/symlink/msp430f1232.pdf
footprint SOIC-28W_7.5x17.9mm_P1.27mm
pins: 1 TEST (in), 2 VCC (power), 3 Rosc/P2.5 (io), 4 VSS (power), 5 XOUT (out), 6 XIN (in), 7 ~{{RST}/NMI} (in), 8 ACLK/A0/P2.0 (io), 9 INCLK/A1/P2.1 (io), 10 TA0/A2/P2.2 (io), 11 P3.0/A5/STE0 (io), 12 P3.1/SIMO0 (io), 13 P3.2/SOMI0 (io), 14 P3.3/UCLK0 (io), 15 P3.4/UTXD0 (io), 16 P3.5/URXD0 (io), 17 P3.6/A6 (io), 18 P3.7/A7 (io), 19 TA1/VeREF-/VREF-/A3/P2.3 (io), 20 TA2/VeREF+/VREF+/A4/P2.4 (io), 21 TACLK/ADC10CLK/P1.0 (io), 22 TA0/P1.1 (io), 23 TA1/P1.2 (io), 24 TA2/P1.3 (io), 25 SMCLK/TCK/P1.4 (io), 26 TMS/TA0/P1.5 (io), 27 TDI/TCLK/TA1/P1.6 (io), 28 TDO/TDI/TA2/P1.7 (io)

## MSP430F1232IPW
designator *  value MSP430F1232IPW
ki_keywords: TI MSP430 16-bit mixed signal microcontroller; ki_description: 8kB + 256B Flash, 256B RAM, TSSOP-28; ki_fp_filters: TSSOP*4.4x9.7mm*P0.65mm*; Footprint: Package_SO:TSSOP-28_4.4x9.7mm_P0.65mm; Supplier: http://www.ti.com/lit/ds/symlink/msp430f1232.pdf
footprint TSSOP-28_4.4x9.7mm_P0.65mm
pins: 1 TEST (in), 2 VCC (power), 3 Rosc/P2.5 (io), 4 VSS (power), 5 XOUT (out), 6 XIN (in), 7 ~{{RST}/NMI} (in), 8 ACLK/A0/P2.0 (io), 9 INCLK/A1/P2.1 (io), 10 TA0/A2/P2.2 (io), 11 P3.0/A5/STE0 (io), 12 P3.1/SIMO0 (io), 13 P3.2/SOMI0 (io), 14 P3.3/UCLK0 (io), 15 P3.4/UTXD0 (io), 16 P3.5/URXD0 (io), 17 P3.6/A6 (io), 18 P3.7/A7 (io), 19 TA1/VeREF-/VREF-/A3/P2.3 (io), 20 TA2/VeREF+/VREF+/A4/P2.4 (io), 21 TACLK/ADC10CLK/P1.0 (io), 22 TA0/P1.1 (io), 23 TA1/P1.2 (io), 24 TA2/P1.3 (io), 25 SMCLK/TCK/P1.4 (io), 26 TMS/TA0/P1.5 (io), 27 TDI/TCLK/TA1/P1.6 (io), 28 TDO/TDI/TA2/P1.7 (io)

## MSP430F1232IRHB
designator *  value MSP430F1232IRHB
ki_keywords: TI MSP430 16-bit mixed signal microcontroller; ki_description: 8kB + 256B Flash, 256B RAM, QFN-32; ki_fp_filters: Texas*S?PVQFN*; Footprint: Package_DFN_QFN:Texas_S-PVQFN-N32_EP3.45x3.45mm; Supplier: http://www.ti.com/lit/ds/symlink/msp430f1232.pdf
footprint Texas_S-PVQFN-N32_EP3.45x3.45mm
pins: 1 VSS (power), 2 XOUT (out), 3 XIN (in), 5 ~{{RST}/NMI} (in), 6 ACLK/A0/P2.0 (io), 7 INCLK/A1/P2.1 (io), 8 TA0/A2/P2.2 (io), 9 P3.0/A5/STE0 (io), 10 P3.1/SIMO0 (io), 11 P3.2/SOMI0 (io), 12 P3.3/UCLK0 (io), 13 P3.4/UTXD0 (io), 14 P3.5/URXD0 (io), 15 P3.6/A6 (io), 16 P3.7/A7 (io), 18 TA1/VeREF-/VREF-/A3/P2.3 (io), 19 TA2/VeREF+/VREF+/A4/P2.4 (io), 21 TACLK/ADC10CLK/P1.0 (io), 22 TA0/P1.1 (io), 23 TA1/P1.2 (io), 24 TA2/P1.3 (io), 25 SMCLK/TCK/P1.4 (io), 26 TMS/TA0/P1.5 (io), 27 TDI/TCLK/TA1/P1.6 (io), 28 TDO/TDI/TA2/P1.7 (io), 29 TEST (in), 30 VCC (power), 32 Rosc/P2.5 (io)

## MSP430F2001IN
designator *  value MSP430F2001IN
ki_keywords: TI MSP430 16-bit mixed signal microcontroller; ki_description: 1kB + 256B Flash, 128B RAM, DIP-14; ki_fp_filters: DIP*W7.62mm*; Footprint: Package_DIP:DIP-14_W7.62mm; Supplier: http://www.ti.com/lit/ds/symlink/msp430f2001.pdf
footprint DIP-14_W7.62mm
pins: 1 VCC (power), 2 CA0/TA0CLK/ACLK/P1.0 (io), 3 CA1/TA0/P1.1 (io), 4 CA2/TA1/P1.2 (io), 5 CA3/CAOUT/P1.3 (io), 6 CA4/SMCLK/TCK/P1.4 (io), 7 CA5/TA0/TMS/P1.5 (io), 8 CA6/TA1/TDI/TCLK/P1.6 (io), 9 CA7/CAOUT/TDO/TDI/P1.7 (io), 10 ~{{RST}/NMI/SBWTDIO} (in), 11 SBWTCK/TEST (in), 12 P2.7/XOUT (io), 13 P2.6/XIN/TA1 (io), 14 VSS (power)

## MSP430F2001IPW
designator *  value MSP430F2001IPW
ki_keywords: TI MSP430 16-bit mixed signal microcontroller; ki_description: 1kB + 256B Flash, 128B RAM, TSSOP-14; ki_fp_filters: TSSOP*4.4x5mm*P0.65mm*; Footprint: Package_SO:TSSOP-14_4.4x5mm_P0.65mm; Supplier: http://www.ti.com/lit/ds/symlink/msp430f2001.pdf
footprint TSSOP-14_4.4x5mm_P0.65mm
pins: 1 VCC (power), 2 CA0/TA0CLK/ACLK/P1.0 (io), 3 CA1/TA0/P1.1 (io), 4 CA2/TA1/P1.2 (io), 5 CA3/CAOUT/P1.3 (io), 6 CA4/SMCLK/TCK/P1.4 (io), 7 CA5/TA0/TMS/P1.5 (io), 8 CA6/TA1/TDI/TCLK/P1.6 (io), 9 CA7/CAOUT/TDO/TDI/P1.7 (io), 10 ~{{RST}/NMI/SBWTDIO} (in), 11 SBWTCK/TEST (in), 12 P2.7/XOUT (io), 13 P2.6/XIN/TA1 (io), 14 VSS (power)

## MSP430F2001IRSA
designator *  value MSP430F2001IRSA
ki_keywords: TI MSP430 16-bit mixed signal microcontroller; ki_description: 1kB + 256B Flash, 128B RAM, QFN-16; ki_fp_filters: Texas*S?PVQFN*; Footprint: Package_DFN_QFN:Texas_S-PVQFN-N16_EP2.7x2.7mm; Supplier: http://www.ti.com/lit/ds/symlink/msp430f2001.pdf
footprint Texas_S-PVQFN-N16_EP2.7x2.7mm
pins: 1 CA0/TA0CLK/ACLK/P1.0 (io), 2 CA1/TA0.0/P1.1 (io), 3 CA2/TA0.1/P1.2 (io), 4 CA3/CAOUT/P1.3 (io), 5 CA4/TCK/SMCLK/P1.4 (io), 6 CA5/TMS/TA0.0/P1.5 (io), 7 CA6/TDI/TCLK/TA0.1/P1.6 (io), 8 CA7/TDO/TDI/CAOUT/P1.7 (io), 9 ~{{RST}/NMI/SBWTDIO} (in), 10 TEST/SBWTCK (in), 11 P2.7/XOUT (io), 12 P2.6/XIN/TA0.1 (io), 14 VSS (power), 16 VCC (power)

## MSP430F2002IN
designator *  value MSP430F2002IN
ki_keywords: TI MSP430 16-bit mixed signal microcontroller; ki_description: 1kB + 256B Flash, 128B RAM, DIP-14; ki_fp_filters: DIP*W7.62mm*; Footprint: Package_DIP:DIP-14_W7.62mm; Supplier: http://www.ti.com/lit/ds/symlink/msp430f2002.pdf
footprint DIP-14_W7.62mm
pins: 1 VCC (power), 2 A0/TA0CLK/ACLK/P1.0 (io), 3 A1/TA0/P1.1 (io), 4 A2/TA1/P1.2 (io), 5 ADC10CLK/A3/VREF-/VeREF-/P1.3 (io), 6 SMCLK/A4/VREF+/VeREF+/TCK/P1.4 (io), 7 TA0/A5/SCLK/TMS/P1.5 (io), 8 TA1/A6/SDO/SCL/TDI/TCLK/P1.6 (io), 9 A7/SDI/SDA/TDO/TDI/P1.7 (io), 10 ~{{RST}/NMI/SBWTDIO} (in), 11 SBWTCK/TEST (in), 12 P2.7/XOUT (io), 13 P2.6/XIN/TA1 (io), 14 VSS (power)

## MSP430F2002IPW
designator *  value MSP430F2002IPW
ki_keywords: TI MSP430 16-bit mixed signal microcontroller; ki_description: 1kB + 256B Flash, 128B RAM, TSSOP-14; ki_fp_filters: TSSOP*4.4x5mm*P0.65mm*; Footprint: Package_SO:TSSOP-14_4.4x5mm_P0.65mm; Supplier: http://www.ti.com/lit/ds/symlink/msp430f2002.pdf
footprint TSSOP-14_4.4x5mm_P0.65mm
pins: 1 VCC (power), 2 A0/TA0CLK/ACLK/P1.0 (io), 3 A1/TA0/P1.1 (io), 4 A2/TA1/P1.2 (io), 5 ADC10CLK/A3/VREF-/VeREF-/P1.3 (io), 6 SMCLK/A4/VREF+/VeREF+/TCK/P1.4 (io), 7 TA0/A5/SCLK/TMS/P1.5 (io), 8 TA1/A6/SDO/SCL/TDI/TCLK/P1.6 (io), 9 A7/SDI/SDA/TDO/TDI/P1.7 (io), 10 ~{{RST}/NMI/SBWTDIO} (in), 11 SBWTCK/TEST (in), 12 P2.7/XOUT (io), 13 P2.6/XIN/TA1 (io), 14 VSS (power)

## MSP430F2002IRSA
designator *  value MSP430F2002IRSA
ki_keywords: TI MSP430 16-bit mixed signal microcontroller; ki_description: 1kB + 256B Flash, 128B RAM, QFN-16; ki_fp_filters: Texas*S?PVQFN*; Footprint: Package_DFN_QFN:Texas_S-PVQFN-N16_EP2.7x2.7mm; Supplier: http://www.ti.com/lit/ds/symlink/msp430f2002.pdf
footprint Texas_S-PVQFN-N16_EP2.7x2.7mm
pins: 1 A0/TA0CLK/ACLK/P1.0 (io), 2 A1/TA0/P1.1 (io), 3 A2/TA1/P1.2 (io), 4 ADC10CLK/A3/VREF-/VeREF-/P1.3 (io), 5 SMCLK/A4/VREF+/VeREF+/TCK/P1.4 (io), 6 TA0/A5/SCLK/TMS/P1.5 (io), 7 TA1/A6/SDO/SCL/TDI/TCLK/P1.6 (io), 8 A7/SDI/SDA/TDO/TDI/P1.7 (io), 9 ~{{RST}/NMI/SBWTDIO} (in), 10 SBWTCK/TEST (in), 11 P2.7/XOUT (io), 12 P2.6/XIN/TA1 (io), 13 AVSS (power), 14 DVSS (power), 15 AVCC (power), 16 DVCC (power)

## MSP430F2003IN
designator *  value MSP430F2003IN
ki_keywords: TI MSP430 16-bit mixed signal microcontroller; ki_description: 1kB + 256B Flash, 128B RAM, DIP-14; ki_fp_filters: DIP*W7.62mm*; Footprint: Package_DIP:DIP-14_W7.62mm; Supplier: http://www.ti.com/lit/ds/symlink/msp430f2003.pdf
footprint DIP-14_W7.62mm
pins: 1 VCC (power), 2 TACLK/ACLK/A0+/P1.0 (io), 3 TA0/A0-/A4+/P1.1 (io), 4 TA1/A1+/A4-/P1.2 (io), 5 VREF/A1-/P1.3 (io), 6 SMCLK/A2+/TCK/P1.4 (io), 7 TA0/A2-/SCLK/TMS/P1.5 (io), 8 TA1/A3+/SDO/SCL/TDI/TCLK/P1.6 (io), 9 A3-/SDI/SDA/TDO/TDI/P1.7 (io), 10 ~{{RST}/NMI/SBWTDIO} (in), 11 SBWTCK/TEST (in), 12 P2.7/XOUT (io), 13 P2.6/XIN/TA1 (io), 14 VSS (power)

## MSP430F2003IPW
designator *  value MSP430F2003IPW
ki_keywords: TI MSP430 16-bit mixed signal microcontroller; ki_description: 1kB + 256B Flash, 128B RAM, TSSOP-14; ki_fp_filters: TSSOP*4.4x5mm*P0.65mm*; Footprint: Package_SO:TSSOP-14_4.4x5mm_P0.65mm; Supplier: http://www.ti.com/lit/ds/symlink/msp430f2003.pdf
footprint TSSOP-14_4.4x5mm_P0.65mm
pins: 1 VCC (power), 2 TACLK/ACLK/A0+/P1.0 (io), 3 TA0/A0-/A4+/P1.1 (io), 4 TA1/A1+/A4-/P1.2 (io), 5 VREF/A1-/P1.3 (io), 6 SMCLK/A2+/TCK/P1.4 (io), 7 TA0/A2-/SCLK/TMS/P1.5 (io), 8 TA1/A3+/SDO/SCL/TDI/TCLK/P1.6 (io), 9 A3-/SDI/SDA/TDO/TDI/P1.7 (io), 10 ~{{RST}/NMI/SBWTDIO} (in), 11 SBWTCK/TEST (in), 12 P2.7/XOUT (io), 13 P2.6/XIN/TA1 (io), 14 VSS (power)

## MSP430F2003IRSA
designator *  value MSP430F2003IRSA
ki_keywords: TI MSP430 16-bit mixed signal microcontroller; ki_description: 1kB + 256B Flash, 128B RAM, QFN-16; ki_fp_filters: Texas*S?PVQFN*; Footprint: Package_DFN_QFN:Texas_S-PVQFN-N16_EP2.7x2.7mm; Supplier: http://www.ti.com/lit/ds/symlink/msp430f2003.pdf
footprint Texas_S-PVQFN-N16_EP2.7x2.7mm
pins: 1 TACLK/ACLK/A0+/P1.0 (io), 2 TA0/A0-/A4+/P1.1 (io), 3 TA1/A1+/A4-/P1.2 (io), 4 VREF/A1-/P1.3 (io), 5 SMCLK/A2+/TCK/P1.4 (io), 6 TA0/A2-/SCLK/TMS/P1.5 (io), 7 TA1/A3+/SDO/SCL/TDI/TCLK/P1.6 (io), 8 A3-/SDI/SDA/TDO/TDI/P1.7 (io), 9 ~{{RST}/NMI/SBWTDIO} (in), 10 SBWTCK/TEST (in), 11 P2.7/XOUT (io), 12 P2.6/XIN/TA1 (io), 13 AVSS (power), 14 DVSS (power), 15 AVCC (power), 16 DVCC (power)

## MSP430F2011IN
designator *  value MSP430F2011IN
ki_keywords: TI MSP430 16-bit mixed signal microcontroller; ki_description: 2kB + 256B Flash, 128B RAM, DIP-14; ki_fp_filters: DIP*W7.62mm*; Footprint: Package_DIP:DIP-14_W7.62mm; Supplier: http://www.ti.com/lit/ds/symlink/msp430f2011.pdf
footprint DIP-14_W7.62mm
pins: 1 VCC (power), 2 CA0/TA0CLK/ACLK/P1.0 (io), 3 CA1/TA0/P1.1 (io), 4 CA2/TA1/P1.2 (io), 5 CA3/CAOUT/P1.3 (io), 6 CA4/SMCLK/TCK/P1.4 (io), 7 CA5/TA0/TMS/P1.5 (io), 8 CA6/TA1/TDI/TCLK/P1.6 (io), 9 CA7/CAOUT/TDO/TDI/P1.7 (io), 10 ~{{RST}/NMI/SBWTDIO} (in), 11 SBWTCK/TEST (in), 12 P2.7/XOUT (io), 13 P2.6/XIN/TA1 (io), 14 VSS (power)

## MSP430F2011IPW
designator *  value MSP430F2011IPW
ki_keywords: TI MSP430 16-bit mixed signal microcontroller; ki_description: 2kB + 256B Flash, 128B RAM, TSSOP-14; ki_fp_filters: TSSOP*4.4x5mm*P0.65mm*; Footprint: Package_SO:TSSOP-14_4.4x5mm_P0.65mm; Supplier: http://www.ti.com/lit/ds/symlink/msp430f2011.pdf
footprint TSSOP-14_4.4x5mm_P0.65mm
pins: 1 VCC (power), 2 CA0/TA0CLK/ACLK/P1.0 (io), 3 CA1/TA0/P1.1 (io), 4 CA2/TA1/P1.2 (io), 5 CA3/CAOUT/P1.3 (io), 6 CA4/SMCLK/TCK/P1.4 (io), 7 CA5/TA0/TMS/P1.5 (io), 8 CA6/TA1/TDI/TCLK/P1.6 (io), 9 CA7/CAOUT/TDO/TDI/P1.7 (io), 10 ~{{RST}/NMI/SBWTDIO} (in), 11 SBWTCK/TEST (in), 12 P2.7/XOUT (io), 13 P2.6/XIN/TA1 (io), 14 VSS (power)

## MSP430F2011IRSA
designator *  value MSP430F2011IRSA
ki_keywords: TI MSP430 16-bit mixed signal microcontroller; ki_description: 2kB + 256B Flash, 128B RAM, QFN-16; ki_fp_filters: Texas*S?PVQFN*; Footprint: Package_DFN_QFN:Texas_S-PVQFN-N16_EP2.7x2.7mm; Supplier: http://www.ti.com/lit/ds/symlink/msp430f2011.pdf
footprint Texas_S-PVQFN-N16_EP2.7x2.7mm
pins: 1 CA0/TA0CLK/ACLK/P1.0 (io), 2 CA1/TA0.0/P1.1 (io), 3 CA2/TA0.1/P1.2 (io), 4 CA3/CAOUT/P1.3 (io), 5 CA4/TCK/SMCLK/P1.4 (io), 6 CA5/TMS/TA0.0/P1.5 (io), 7 CA6/TDI/TCLK/TA0.1/P1.6 (io), 8 CA7/TDO/TDI/CAOUT/P1.7 (io), 9 ~{{RST}/NMI/SBWTDIO} (in), 10 TEST/SBWTCK (in), 11 P2.7/XOUT (io), 12 P2.6/XIN/TA0.1 (io), 14 VSS (power), 16 VCC (power)

## MSP430F2012IN
designator *  value MSP430F2012IN
ki_keywords: TI MSP430 16-bit mixed signal microcontroller; ki_description: 2kB + 256B Flash, 128B RAM, DIP-14; ki_fp_filters: DIP*W7.62mm*; Footprint: Package_DIP:DIP-14_W7.62mm; Supplier: http://www.ti.com/lit/ds/symlink/msp430f2012.pdf
footprint DIP-14_W7.62mm
pins: 1 VCC (power), 2 A0/TA0CLK/ACLK/P1.0 (io), 3 A1/TA0/P1.1 (io), 4 A2/TA1/P1.2 (io), 5 ADC10CLK/A3/VREF-/VeREF-/P1.3 (io), 6 SMCLK/A4/VREF+/VeREF+/TCK/P1.4 (io), 7 TA0/A5/SCLK/TMS/P1.5 (io), 8 TA1/A6/SDO/SCL/TDI/TCLK/P1.6 (io), 9 A7/SDI/SDA/TDO/TDI/P1.7 (io), 10 ~{{RST}/NMI/SBWTDIO} (in), 11 SBWTCK/TEST (in), 12 P2.7/XOUT (io), 13 P2.6/XIN/TA1 (io), 14 VSS (power)

## MSP430F2012IPW
designator *  value MSP430F2012IPW
ki_keywords: TI MSP430 16-bit mixed signal microcontroller; ki_description: 2kB + 256B Flash, 128B RAM, TSSOP-14; ki_fp_filters: TSSOP*4.4x5mm*P0.65mm*; Footprint: Package_SO:TSSOP-14_4.4x5mm_P0.65mm; Supplier: http://www.ti.com/lit/ds/symlink/msp430f2012.pdf
footprint TSSOP-14_4.4x5mm_P0.65mm
pins: 1 VCC (power), 2 A0/TA0CLK/ACLK/P1.0 (io), 3 A1/TA0/P1.1 (io), 4 A2/TA1/P1.2 (io), 5 ADC10CLK/A3/VREF-/VeREF-/P1.3 (io), 6 SMCLK/A4/VREF+/VeREF+/TCK/P1.4 (io), 7 TA0/A5/SCLK/TMS/P1.5 (io), 8 TA1/A6/SDO/SCL/TDI/TCLK/P1.6 (io), 9 A7/SDI/SDA/TDO/TDI/P1.7 (io), 10 ~{{RST}/NMI/SBWTDIO} (in), 11 SBWTCK/TEST (in), 12 P2.7/XOUT (io), 13 P2.6/XIN/TA1 (io), 14 VSS (power)

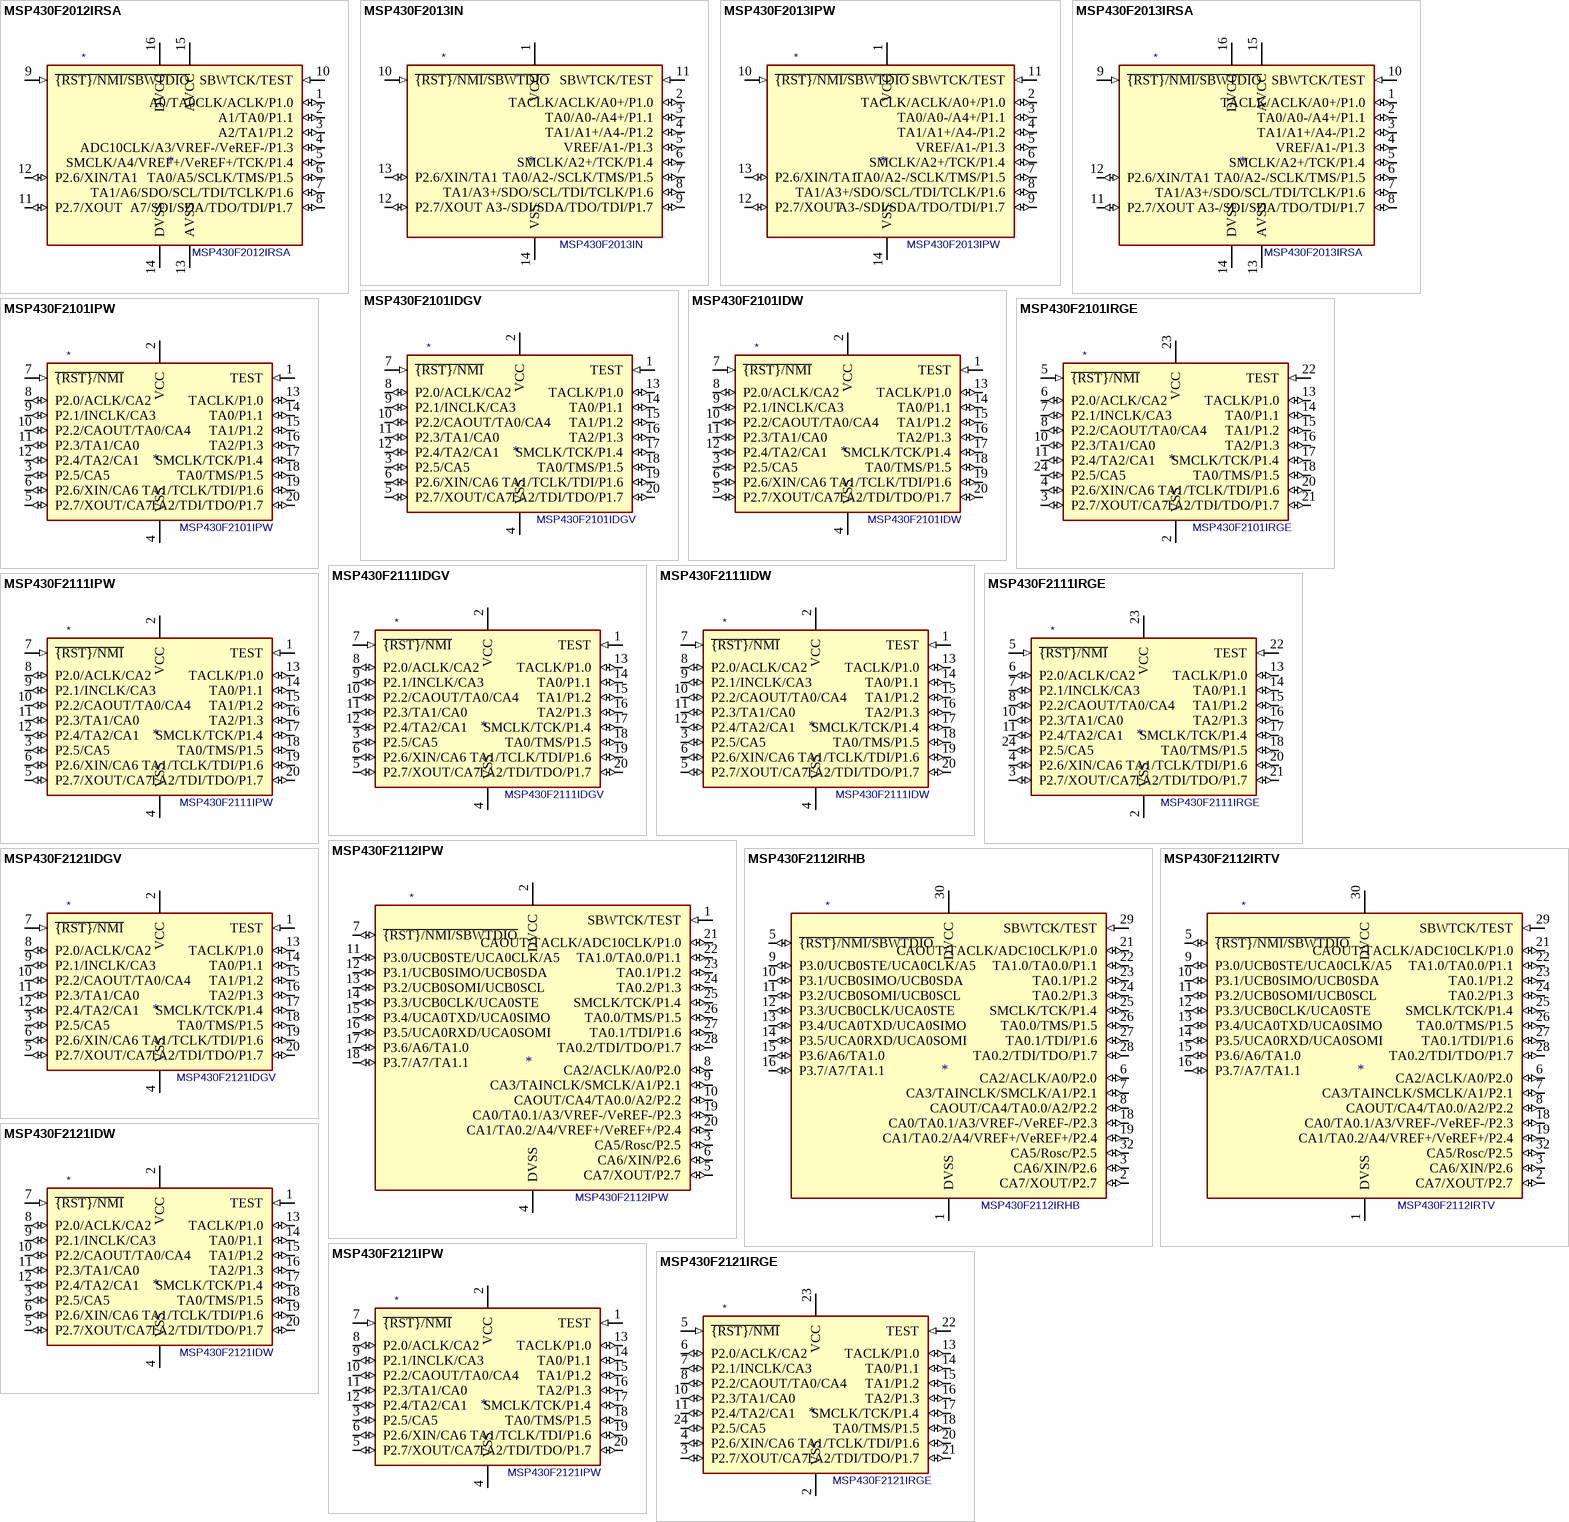
[diagram p3: symbols MSP430F2012IRSA to MSP430F2121IRGE]

## MSP430F2012IRSA
designator *  value MSP430F2012IRSA
ki_keywords: TI MSP430 16-bit mixed signal microcontroller; ki_description: 2kB + 256B Flash, 128B RAM, QFN-16; ki_fp_filters: Texas*S?PVQFN*; Footprint: Package_DFN_QFN:Texas_S-PVQFN-N16_EP2.7x2.7mm; Supplier: http://www.ti.com/lit/ds/symlink/msp430f2012.pdf
footprint Texas_S-PVQFN-N16_EP2.7x2.7mm
pins: 1 A0/TA0CLK/ACLK/P1.0 (io), 2 A1/TA0/P1.1 (io), 3 A2/TA1/P1.2 (io), 4 ADC10CLK/A3/VREF-/VeREF-/P1.3 (io), 5 SMCLK/A4/VREF+/VeREF+/TCK/P1.4 (io), 6 TA0/A5/SCLK/TMS/P1.5 (io), 7 TA1/A6/SDO/SCL/TDI/TCLK/P1.6 (io), 8 A7/SDI/SDA/TDO/TDI/P1.7 (io), 9 ~{{RST}/NMI/SBWTDIO} (in), 10 SBWTCK/TEST (in), 11 P2.7/XOUT (io), 12 P2.6/XIN/TA1 (io), 13 AVSS (power), 14 DVSS (power), 15 AVCC (power), 16 DVCC (power)

## MSP430F2013IN
designator *  value MSP430F2013IN
ki_keywords: TI MSP430 16-bit mixed signal microcontroller; ki_description: 2kB + 256B Flash, 128B RAM, DIP-14; ki_fp_filters: DIP*W7.62mm*; Footprint: Package_DIP:DIP-14_W7.62mm; Supplier: http://www.ti.com/lit/ds/symlink/msp430f2013.pdf
footprint DIP-14_W7.62mm
pins: 1 VCC (power), 2 TACLK/ACLK/A0+/P1.0 (io), 3 TA0/A0-/A4+/P1.1 (io), 4 TA1/A1+/A4-/P1.2 (io), 5 VREF/A1-/P1.3 (io), 6 SMCLK/A2+/TCK/P1.4 (io), 7 TA0/A2-/SCLK/TMS/P1.5 (io), 8 TA1/A3+/SDO/SCL/TDI/TCLK/P1.6 (io), 9 A3-/SDI/SDA/TDO/TDI/P1.7 (io), 10 ~{{RST}/NMI/SBWTDIO} (in), 11 SBWTCK/TEST (in), 12 P2.7/XOUT (io), 13 P2.6/XIN/TA1 (io), 14 VSS (power)

## MSP430F2013IPW
designator *  value MSP430F2013IPW
ki_keywords: TI MSP430 16-bit mixed signal microcontroller; ki_description: 2kB + 256B Flash, 128B RAM, TSSOP-14; ki_fp_filters: TSSOP*4.4x5mm*P0.65mm*; Footprint: Package_SO:TSSOP-14_4.4x5mm_P0.65mm; Supplier: http://www.ti.com/lit/ds/symlink/msp430f2013.pdf
footprint TSSOP-14_4.4x5mm_P0.65mm
pins: 1 VCC (power), 2 TACLK/ACLK/A0+/P1.0 (io), 3 TA0/A0-/A4+/P1.1 (io), 4 TA1/A1+/A4-/P1.2 (io), 5 VREF/A1-/P1.3 (io), 6 SMCLK/A2+/TCK/P1.4 (io), 7 TA0/A2-/SCLK/TMS/P1.5 (io), 8 TA1/A3+/SDO/SCL/TDI/TCLK/P1.6 (io), 9 A3-/SDI/SDA/TDO/TDI/P1.7 (io), 10 ~{{RST}/NMI/SBWTDIO} (in), 11 SBWTCK/TEST (in), 12 P2.7/XOUT (io), 13 P2.6/XIN/TA1 (io), 14 VSS (power)

## MSP430F2013IRSA
designator *  value MSP430F2013IRSA
ki_keywords: TI MSP430 16-bit mixed signal microcontroller; ki_description: 2kB + 256B Flash, 128B RAM, QFN-16; ki_fp_filters: Texas*S?PVQFN*; Footprint: Package_DFN_QFN:Texas_S-PVQFN-N16_EP2.7x2.7mm; Supplier: http://www.ti.com/lit/ds/symlink/msp430f2013.pdf
footprint Texas_S-PVQFN-N16_EP2.7x2.7mm
pins: 1 TACLK/ACLK/A0+/P1.0 (io), 2 TA0/A0-/A4+/P1.1 (io), 3 TA1/A1+/A4-/P1.2 (io), 4 VREF/A1-/P1.3 (io), 5 SMCLK/A2+/TCK/P1.4 (io), 6 TA0/A2-/SCLK/TMS/P1.5 (io), 7 TA1/A3+/SDO/SCL/TDI/TCLK/P1.6 (io), 8 A3-/SDI/SDA/TDO/TDI/P1.7 (io), 9 ~{{RST}/NMI/SBWTDIO} (in), 10 SBWTCK/TEST (in), 11 P2.7/XOUT (io), 12 P2.6/XIN/TA1 (io), 13 AVSS (power), 14 DVSS (power), 15 AVCC (power), 16 DVCC (power)

## MSP430F2101IDGV
designator *  value MSP430F2101IDGV
ki_keywords: TI MSP430 16-bit mixed signal microcontroller; ki_description: 1kB + 256B Flash, 128B RAM, TVSOP-20; ki_fp_filters: TSSOP*4.4x6.5mm*P0.65mm*; Footprint: Package_SO:TSSOP-20_4.4x6.5mm_P0.65mm; Supplier: http://www.ti.com/lit/ds/symlink/msp430f2101.pdf
footprint TSSOP-20_4.4x6.5mm_P0.65mm
pins: 1 TEST (in), 2 VCC (power), 3 P2.5/CA5 (io), 4 VSS (power), 5 P2.7/XOUT/CA7 (io), 6 P2.6/XIN/CA6 (io), 7 ~{{RST}/NMI} (in), 8 P2.0/ACLK/CA2 (io), 9 P2.1/INCLK/CA3 (io), 10 P2.2/CAOUT/TA0/CA4 (io), 11 P2.3/TA1/CA0 (io), 12 P2.4/TA2/CA1 (io), 13 TACLK/P1.0 (io), 14 TA0/P1.1 (io), 15 TA1/P1.2 (io), 16 TA2/P1.3 (io), 17 SMCLK/TCK/P1.4 (io), 18 TA0/TMS/P1.5 (io), 19 TA1/TCLK/TDI/P1.6 (io), 20 TA2/TDI/TDO/P1.7 (io)